# Altium schematic symbol library SamacSys.SchLib: 1311 symbols (part 8 of 14)
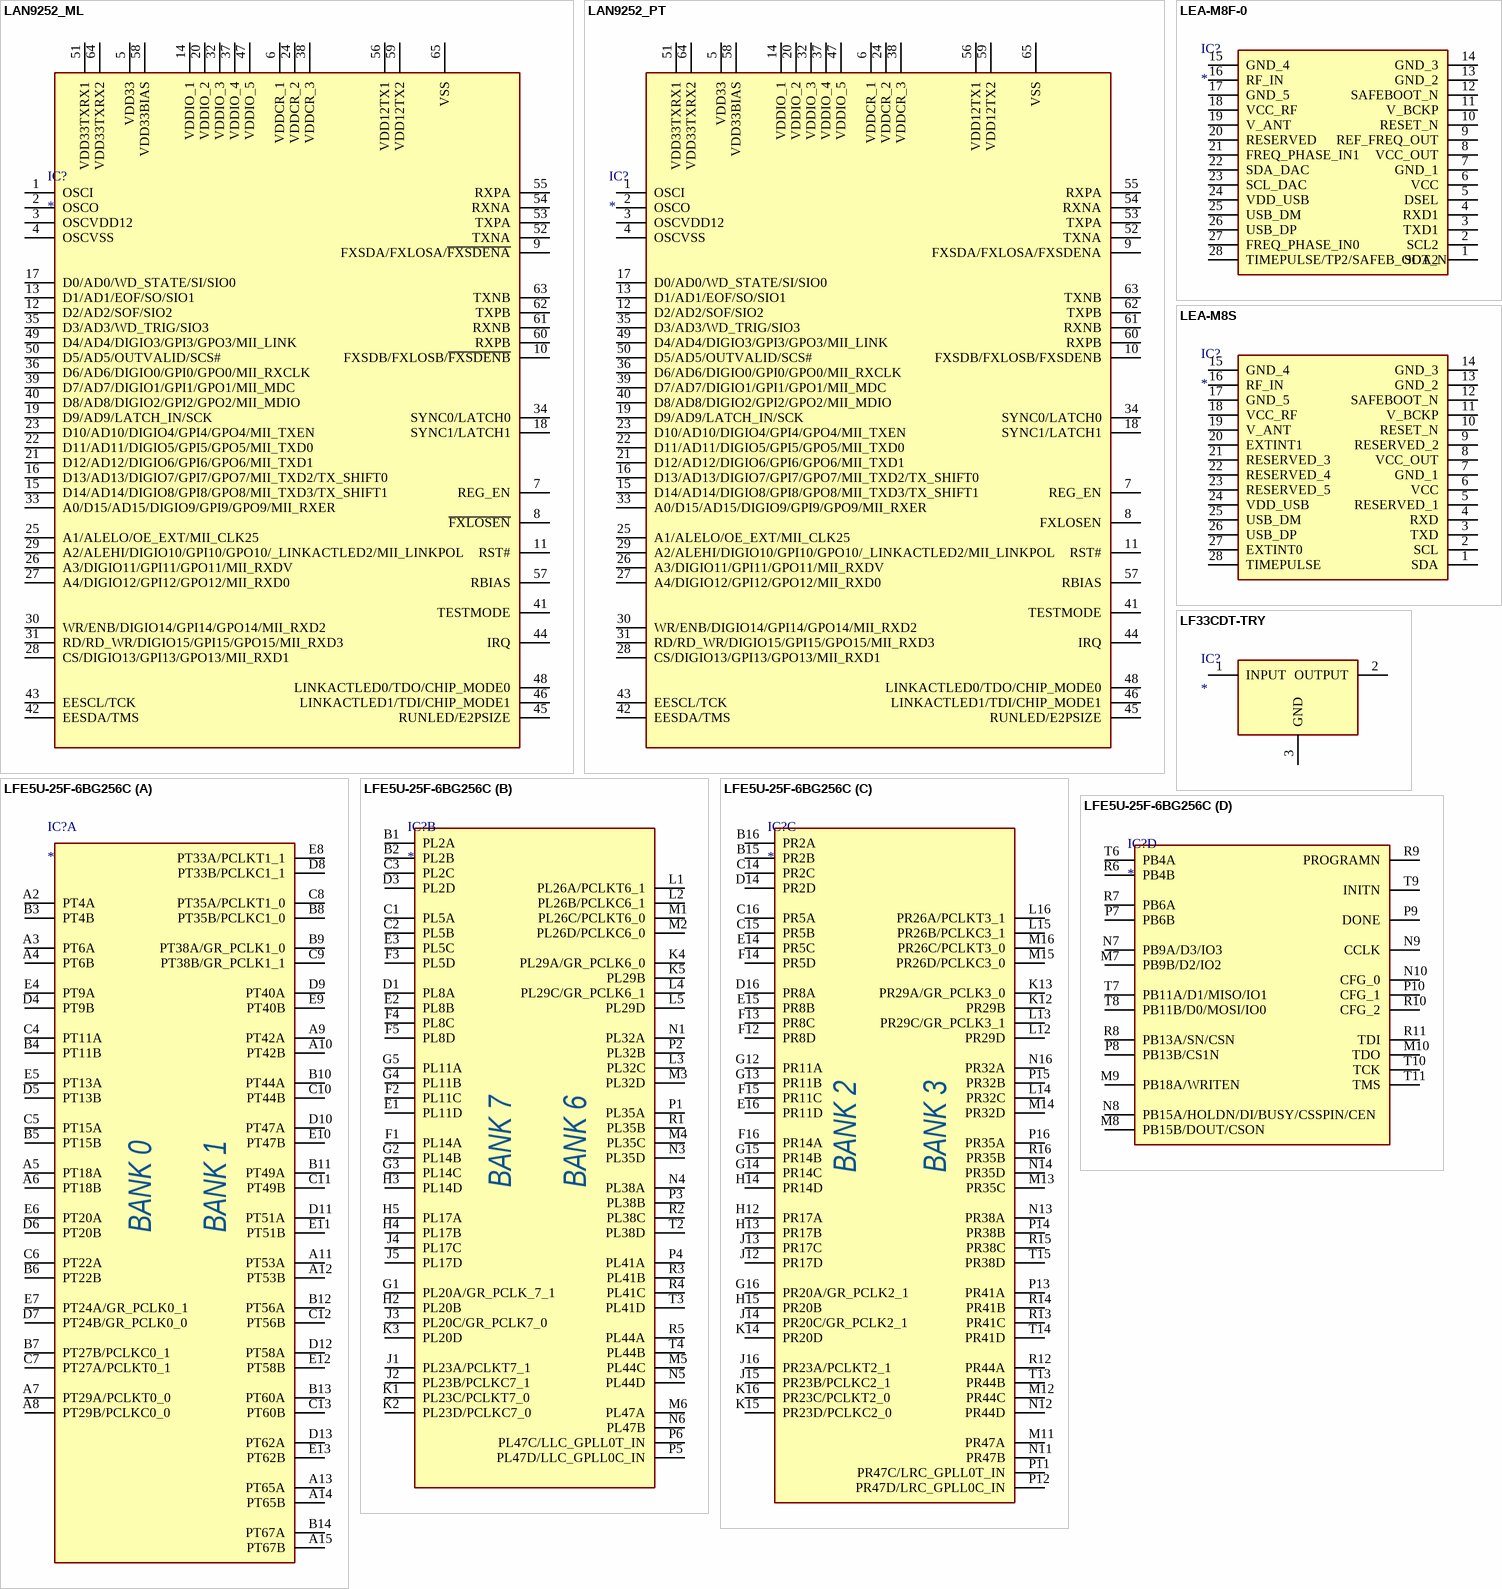
[diagram p57: symbols LAN9252_ML to LFE5U-25F-6BG256C]

## LAN9252_PT
designator IC?
Integrated Circuit; Manufacturer_Name: Microchip; Manufacturer_Part_Number: LAN9252/PT; Datasheet Link: https://componentsearchengine.com/Datasheets/1/LAN9252_PT.pdf; Height: 1.2mm; Mouser Part Number: 579-LAN9252/PT; Mouser Price/Stock: https://www.mouser.co.uk/ProductDetail/Microchip-Technology/LAN9252-PT?qs=%252ByRm1sYhYIkN4y4wMc7rzA%3D%3D; Arrow Part Number: LAN9252/PT; Arrow Price/Stock: https://www.arrow.com/en/products/lan9252pt/microchip-technology?utm_currency=USD&region=nac
footprint QFP50P1200X1200X120-65N
pins: 1 OSCI, 2 OSCO, 3 OSCVDD12, 4 OSCVSS, 5 VDD33, 6 VDDCR_1, 7 REG_EN, 8 FXLOSEN, 9 FXSDA/FXLOSA/FXSDENA, 10 FXSDB/FXLOSB/FXSDENB, 11 RST#, 12 D2/AD2/SOF/SIO2, 13 D1/AD1/EOF/SO/SIO1, 14 VDDIO_1, 15 D14/AD14/DIGIO8/GPI8/GPO8/MII_TXD3/TX_SHIFT1, 16 D13/AD13/DIGIO7/GPI7/GPO7/MII_TXD2/TX_SHIFT0, 17 D0/AD0/WD_STATE/SI/SIO0, 18 SYNC1/LATCH1, 19 D9/AD9/LATCH_IN/SCK, 20 VDDIO_2, 21 D12/AD12/DIGIO6/GPI6/GPO6/MII_TXD1, 22 D11/AD11/DIGIO5/GPI5/GPO5/MII_TXD0, 23 D10/AD10/DIGIO4/GPI4/GPO4/MII_TXEN, 24 VDDCR_2, 25 A1/ALELO/OE_EXT/MII_CLK25, 26 A3/DIGIO11/GPI11/GPO11/MII_RXDV, 27 A4/DIGIO12/GPI12/GPO12/MII_RXD0, 28 CS/DIGIO13/GPI13/GPO13/MII_RXD1, 29 A2/ALEHI/DIGIO10/GPI10/GPO10/_LINKACTLED2/MII_LINKPOL, 30 WR/ENB/DIGIO14/GPI14/GPO14/MII_RXD2, 31 RD/RD_WR/DIGIO15/GPI15/GPO15/MII_RXD3, 32 VDDIO_3, 33 A0/D15/AD15/DIGIO9/GPI9/GPO9/MII_RXER, 34 SYNC0/LATCH0, 35 D3/AD3/WD_TRIG/SIO3, 36 D6/AD6/DIGIO0/GPI0/GPO0/MII_RXCLK, 37 VDDIO_4, 38 VDDCR_3, 39 D7/AD7/DIGIO1/GPI1/GPO1/MII_MDC, 40 D8/AD8/DIGIO2/GPI2/GPO2/MII_MDIO, 41 TESTMODE, 42 EESDA/TMS, 43 EESCL/TCK, 44 IRQ, 45 RUNLED/E2PSIZE, 46 LINKACTLED1/TDI/CHIP_MODE1, 47 VDDIO_5, 48 LINKACTLED0/TDO/CHIP_MODE0, 49 D4/AD4/DIGIO3/GPI3/GPO3/MII_LINK, 50 D5/AD5/OUTVALID/SCS#, 51 VDD33TXRX1, 52 TXNA, 53 TXPA, 54 RXNA, 55 RXPA, 56 VDD12TX1, 57 RBIAS, 58 VDD33BIAS, 59 VDD12TX2, 60 RXPB, 61 RXNB, 62 TXPB, 63 TXNB, 64 VDD33TXRX2, 65 VSS

## LEA-M8F-0
designator IC?
Integrated Circuit; Manufacturer_Name: u-blox; Manufacturer_Part_Number: LEA-M8F-0; Datasheet Link: https://content.u-blox.com/sites/default/files/documents/LEA-M8F_DataSheet_UBX-14001772.pdf; Height: 3.9mm; Mouser Part Number: 377-LEA-M8F-0; Mouser Price/Stock: https://www.mouser.co.uk/ProductDetail/u-blox/LEA-M8F-0?qs=KUoIvG%2F9IlbqimLgpKzp4A%3D%3D
footprint LEAM8F0
pins: 1 SDA2, 2 SCL2, 3 TXD1, 4 RXD1, 5 DSEL, 6 VCC, 7 GND_1, 8 VCC_OUT, 9 REF_FREQ_OUT, 10 RESET_N, 11 V_BCKP, 12 SAFEBOOT_N, 13 GND_2, 14 GND_3, 15 GND_4, 16 RF_IN, 17 GND_5, 18 VCC_RF, 19 V_ANT, 20 RESERVED, 21 FREQ_PHASE_IN1, 22 SDA_DAC, 23 SCL_DAC, 24 VDD_USB, 25 USB_DM, 26 USB_DP, 27 FREQ_PHASE_IN0, 28 TIMEPULSE/TP2/SAFEB_OOT_N

## LEA-M8S
designator IC?
Integrated Circuit; Manufacturer_Name: u-blox; Manufacturer_Part_Number: LEA-M8S; Datasheet Link: https://www.u-blox.com/sites/default/files/LEA-M8S-FW3_DataSheet_%28UBX-16010205%29.pdf; Height: 2.7mm; Mouser Part Number: N/A; Mouser Price/Stock: https://www.mouser.co.uk/ProductDetail/u-blox/LEA-M8S?qs=KUoIvG%2F9IlYlar0PVoRKBw%3D%3D
footprint LEAM8S
pins: 1 SDA, 2 SCL, 3 TXD, 4 RXD, 5 RESERVED_1, 6 VCC, 7 GND_1, 8 VCC_OUT, 9 RESERVED_2, 10 RESET_N, 11 V_BCKP, 12 SAFEBOOT_N, 13 GND_2, 14 GND_3, 15 GND_4, 16 RF_IN, 17 GND_5, 18 VCC_RF, 19 V_ANT, 20 EXTINT1, 21 RESERVED_3, 22 RESERVED_4, 23 RESERVED_5, 24 VDD_USB, 25 USB_DM, 26 USB_DP, 27 EXTINT0, 28 TIMEPULSE

## LF33CDT-TRY
designator IC?
IC LDO 3.3V 500mA DPAK; Manufacturer_Name: STMicroelectronics; Manufacturer_Part_Number: LF33CDT-TRY; Datasheet Link: https://www.st.com/resource/en/datasheet/lfxx.pdf; Height: 2mm; Mouser Part Number: 511-LF33CDT-TRY; Mouser Price/Stock: https://www.mouser.co.uk/ProductDetail/STMicroelectronics/LF33CDT-TRY?qs=fnYUjNMxfVBCqlsIwZoKRw%3D%3D; Arrow Part Number: LF33CDT-TRY; Arrow Price/Stock: https://www.arrow.com/en/products/lf33cdt-try/stmicroelectronics?region=nac
footprint LD1117DT33
pins: 1 INPUT, 2 OUTPUT, 3 GND

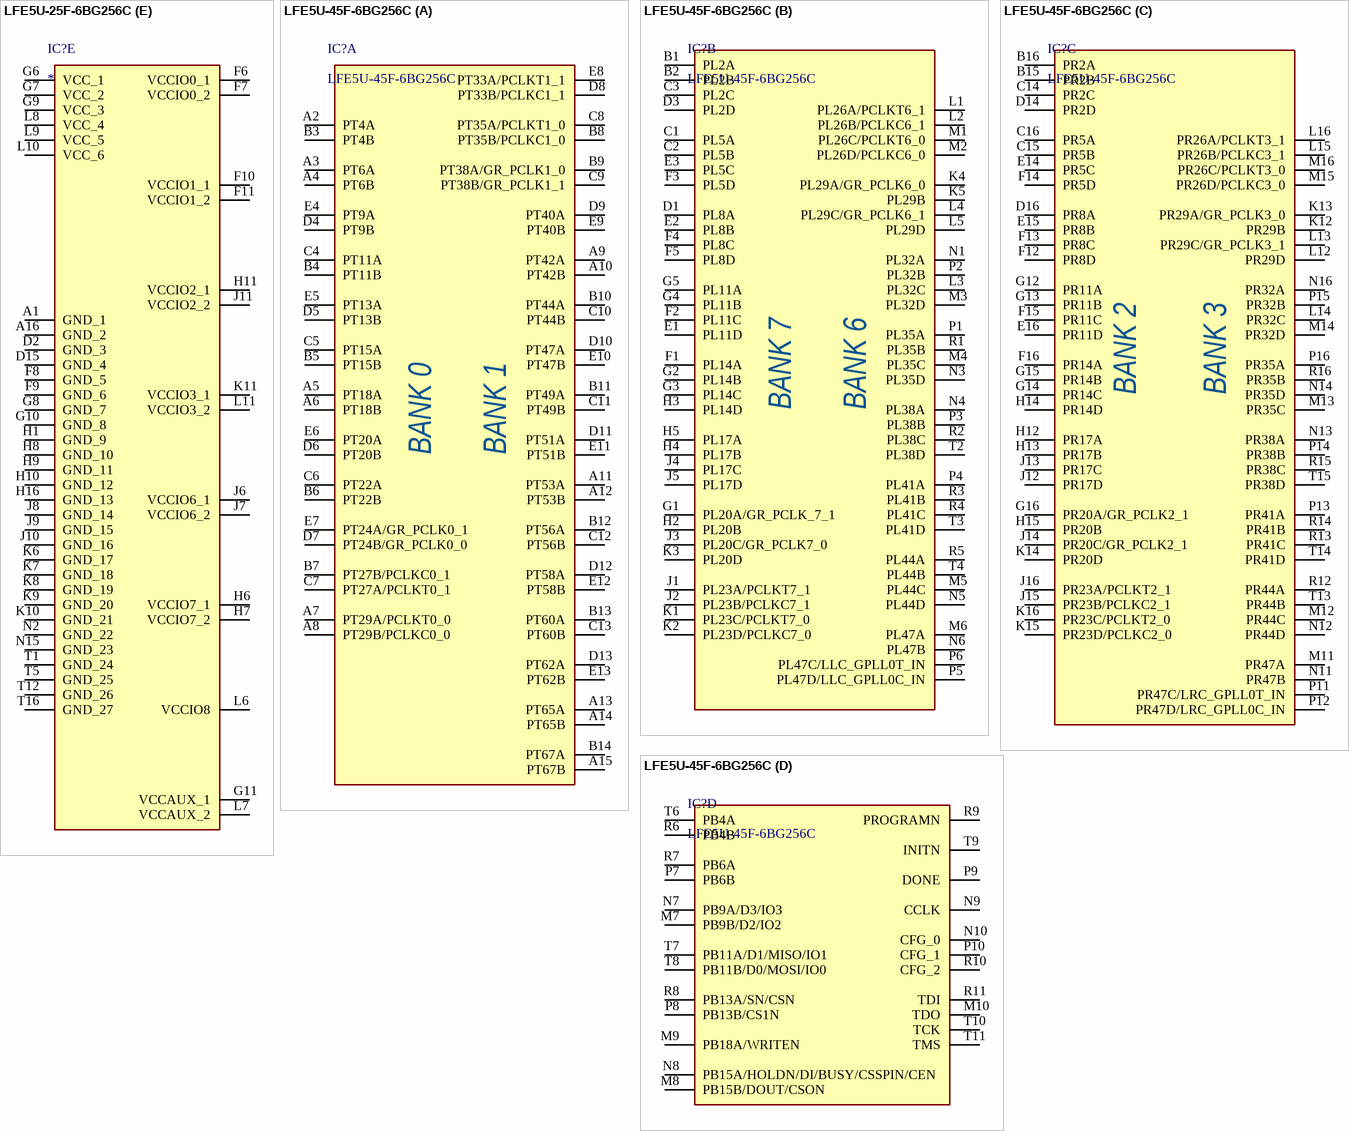
[diagram p26: symbols LFE5U-25F-6BG256C to LFE5U-45F-6BG256C]

## LFE5U-25F-6BG256C
designator IC?
FPGA, 24K LUT, 137kbit RAM; Manufacturer_Name: Lattice Semiconductor; Manufacturer_Part_Number: LFE5U-25F-6BG256C; Datasheet Link: http://www.latticesemi.com/view_document?document_id=50461; Height: 1.7mm; Mouser Part Number: 842-LFE5U25F6BG256C; Mouser Price/Stock: https://www.mouser.co.uk/ProductDetail/Lattice/LFE5U-25F-6BG256C?qs=w%2Fv1CP2dgqrTaI14mPfyBg%3D%3D; Arrow Part Number: LFE5U-25F-6BG256C; Arrow Price/Stock: https://www.arrow.com/en/products/lfe5u-25f-6bg256c/lattice-semiconductor?region=nac
footprint BGA256C80P16X16_1400X1400X170
part A pins: A2 PT4A, A3 PT6A, A4 PT6B, A5 PT18A, A6 PT18B, A7 PT29A/PCLKT0_0, A8 PT29B/PCLKC0_0, A9 PT42A, A10 PT42B, A11 PT53A, A12 PT53B, A13 PT65A, A14 PT65B, A15 PT67B, B3 PT4B, B4 PT11B, B5 PT15B, B6 PT22B, B7 PT27B/PCLKC0_1, B8 PT35B/PCLKC1_0, B9 PT38A/GR_PCLK1_0, B10 PT44A, B11 PT49A, B12 PT56A, B13 PT60A, B14 PT67A, C4 PT11A, C5 PT15A, C6 PT22A, C7 PT27A/PCLKT0_1, C8 PT35A/PCLKT1_0, C9 PT38B/GR_PCLK1_1, C10 PT44B, C11 PT49B, C12 PT56B, C13 PT60B, D4 PT9B, D5 PT13B, D6 PT20B, D7 PT24B/GR_PCLK0_0, D8 PT33B/PCLKC1_1, D9 PT40A, D10 PT47A, D11 PT51A, D12 PT58A, D13 PT62A, E4 PT9A, E5 PT13A, E6 PT20A, E7 PT24A/GR_PCLK0_1, E8 PT33A/PCLKT1_1, E9 PT40B, E10 PT47B, E11 PT51B, E12 PT58B, E13 PT62B
part B pins: B1 PL2A, B2 PL2B, C1 PL5A, C2 PL5B, C3 PL2C, D1 PL8A, D3 PL2D, E1 PL11D, E2 PL8B, E3 PL5C, F1 PL14A, F2 PL11C, F3 PL5D, F4 PL8C, F5 PL8D, G1 PL20A/GR_PCLK_7_1, G2 PL14B, G3 PL14C, G4 PL11B, G5 PL11A, H2 PL20B, H3 PL14D, H4 PL17B, H5 PL17A, J1 PL23A/PCLKT7_1, J2 PL23B/PCLKC7_1, J3 PL20C/GR_PCLK7_0, J4 PL17C, J5 PL17D, K1 PL23C/PCLKT7_0, K2 PL23D/PCLKC7_0, K3 PL20D, K4 PL29A/GR_PCLK6_0, K5 PL29B, L1 PL26A/PCLKT6_1, L2 PL26B/PCLKC6_1, L3 PL32C, L4 PL29C/GR_PCLK6_1, L5 PL29D, M1 PL26C/PCLKT6_0, M2 PL26D/PCLKC6_0, M3 PL32D, M4 PL35C, M5 PL44C, M6 PL47A, N1 PL32A, N3 PL35D, N4 PL38A, N5 PL44D, N6 PL47B, P1 PL35A, P2 PL32B, P3 PL38B, P4 PL41A, P5 PL47D/LLC_GPLL0C_IN, P6 PL47C/LLC_GPLL0T_IN, R1 PL35B, R2 PL38C, R3 PL41B, R4 PL41C, R5 PL44A, T2 PL38D, T3 PL41D, T4 PL44B
part C pins: B15 PR2B, B16 PR2A, C14 PR2C, C15 PR5B, C16 PR5A, D14 PR2D, D16 PR8A, E14 PR5C, E15 PR8B, E16 PR11D, F12 PR8D, F13 PR8C, F14 PR5D, F15 PR11C, F16 PR14A, G12 PR11A, G13 PR11B, G14 PR14C, G15 PR14B, G16 PR20A/GR_PCLK2_1, H12 PR17A, H13 PR17B, H14 PR14D, H15 PR20B, J12 PR17D, J13 PR17C, J14 PR20C/GR_PCLK2_1, J15 PR23B/PCLKC2_1, J16 PR23A/PCLKT2_1, K12 PR29B, K13 PR29A/GR_PCLK3_0, K14 PR20D, K15 PR23D/PCLKC2_0, K16 PR23C/PCLKT2_0, L12 PR29D, L13 PR29C/GR_PCLK3_1, L14 PR32C, L15 PR26B/PCLKC3_1, L16 PR26A/PCLKT3_1, M11 PR47A, M12 PR44C, M13 PR35C, M14 PR32D, M15 PR26D/PCLKC3_0, M16 PR26C/PCLKT3_0, N11 PR47B, N12 PR44D, N13 PR38A, N14 PR35D, N16 PR32A, P11 PR47C/LRC_GPLL0T_IN, P12 PR47D/LRC_GPLL0C_IN, P13 PR41A, P14 PR38B, P15 PR32B, P16 PR35A, R12 PR44A, R13 PR41C, R14 PR41B, R15 PR38C, R16 PR35B, T13 PR44B, T14 PR41D, T15 PR38D
part D pins: M7 PB9B/D2/IO2, M8 PB15B/DOUT/CSON, M9 PB18A/WRITEN, M10 TDO, N7 PB9A/D3/IO3, N8 PB15A/HOLDN/DI/BUSY/CSSPIN/CEN, N9 CCLK, N10 CFG_0, P7 PB6B, P8 PB13B/CS1N, P9 DONE, P10 CFG_1, R6 PB4B, R7 PB6A, R8 PB13A/SN/CSN, R9 PROGRAMN, R10 CFG_2, R11 TDI, T6 PB4A, T7 PB11A/D1/MISO/IO1, T8 PB11B/D0/MOSI/IO0, T9 INITN, T10 TCK, T11 TMS
part E pins: A1 GND_1, A16 GND_2, D2 GND_3, D15 GND_4, F6 VCCIO0_1, F7 VCCIO0_2, F8 GND_5, F9 GND_6, F10 VCCIO1_1, F11 VCCIO1_2, G6 VCC_1, G7 VCC_2, G8 GND_7, G9 VCC_3, G10 GND_8, G11 VCCAUX_1, H1 GND_9, H6 VCCIO7_1, H7 VCCIO7_2, H8 GND_10, H9 GND_11, H10 GND_12, H11 VCCIO2_1, H16 GND_13, J6 VCCIO6_1, J7 VCCIO6_2, J8 GND_14, J9 GND_15, J10 GND_16, J11 VCCIO2_2, K6 GND_17, K7 GND_18, K8 GND_19, K9 GND_20, K10 GND_21, K11 VCCIO3_1, L6 VCCIO8, L7 VCCAUX_2, L8 VCC_4, L9 VCC_5, L10 VCC_6, L11 VCCIO3_2, N2 GND_22, N15 GND_23, T1 GND_24, T5 GND_25, T12 GND_26, T16 GND_27
part A text: BANK 0; BANK 1
part B text: BANK 7; BANK 6
part C text: BANK 2; BANK 3

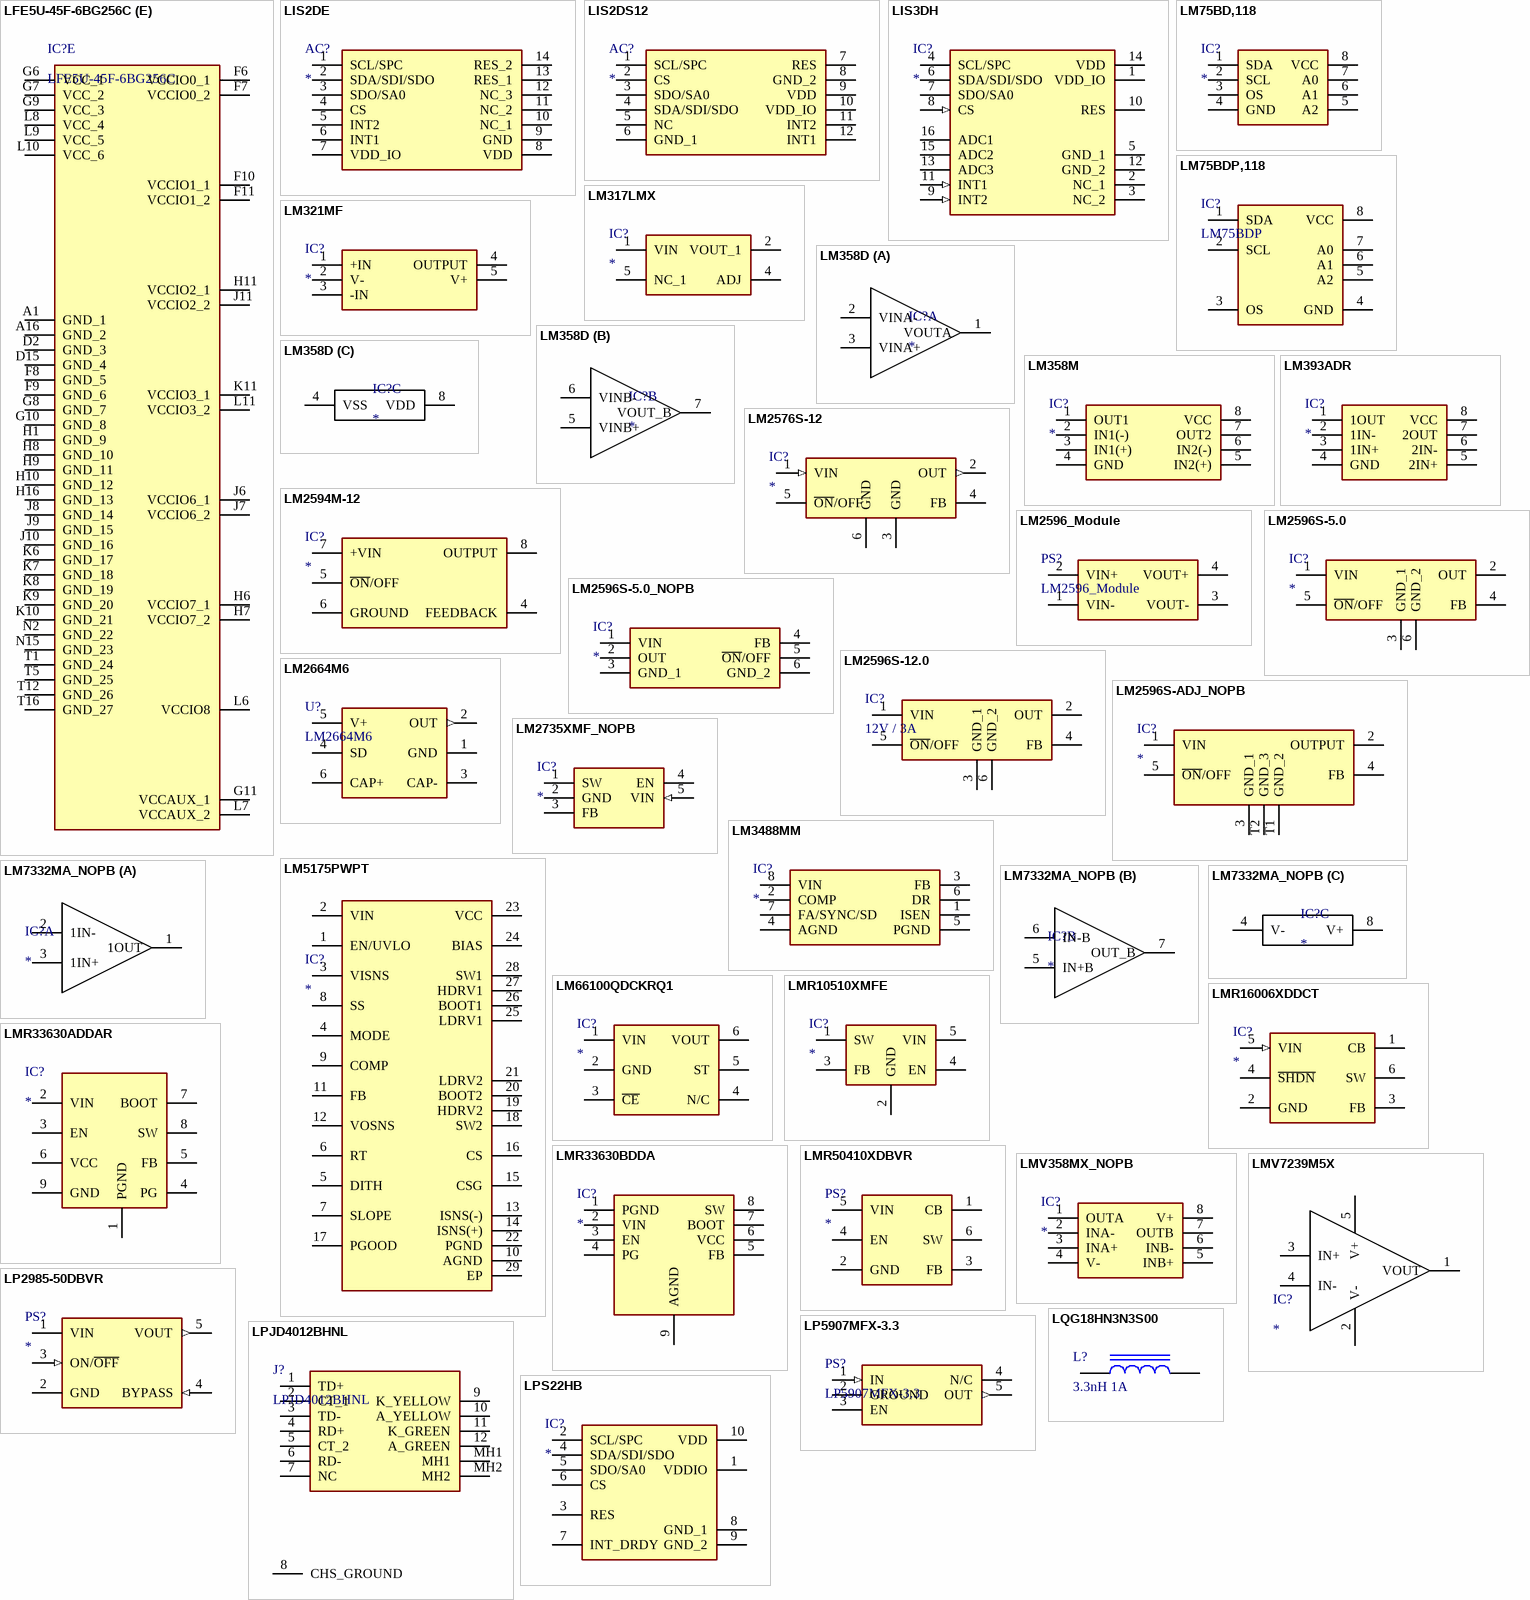
[diagram p27: symbols LFE5U-45F-6BG256C to LQG18HN3N3S00]

## LFE5U-45F-6BG256C
designator IC?
FPGA, 44K LUT, 351kbit RAM; Manufacturer_Name: Lattice Semiconductor; Datasheet Link: http://www.latticesemi.com/view_document?document_id=50461; Height: 1.7mm; Manufacturer_Part_Number: LFE5U-45F-6BG256C; Mouser Part Number: LFE5U-45F-6BG256C; Mouser Price/Stock: https://www.mouser.co.uk/ProductDetail/Lattice/LFE5U-25F-6BG256C?qs=w%2Fv1CP2dgqrTaI14mPfyBg%3D%3D; Arrow Part Number: LFE5U-45F-6BG256C; Arrow Price/Stock: https://www.arrow.com/en/products/lfe5u-25f-6bg256c/lattice-semiconductor?region=nac
footprint BGA256C80P16X16_1400X1400X170
part A pins: A2 PT4A, A3 PT6A, A4 PT6B, A5 PT18A, A6 PT18B, A7 PT29A/PCLKT0_0, A8 PT29B/PCLKC0_0, A9 PT42A, A10 PT42B, A11 PT53A, A12 PT53B, A13 PT65A, A14 PT65B, A15 PT67B, B3 PT4B, B4 PT11B, B5 PT15B, B6 PT22B, B7 PT27B/PCLKC0_1, B8 PT35B/PCLKC1_0, B9 PT38A/GR_PCLK1_0, B10 PT44A, B11 PT49A, B12 PT56A, B13 PT60A, B14 PT67A, C4 PT11A, C5 PT15A, C6 PT22A, C7 PT27A/PCLKT0_1, C8 PT35A/PCLKT1_0, C9 PT38B/GR_PCLK1_1, C10 PT44B, C11 PT49B, C12 PT56B, C13 PT60B, D4 PT9B, D5 PT13B, D6 PT20B, D7 PT24B/GR_PCLK0_0, D8 PT33B/PCLKC1_1, D9 PT40A, D10 PT47A, D11 PT51A, D12 PT58A, D13 PT62A, E4 PT9A, E5 PT13A, E6 PT20A, E7 PT24A/GR_PCLK0_1, E8 PT33A/PCLKT1_1, E9 PT40B, E10 PT47B, E11 PT51B, E12 PT58B, E13 PT62B
part B pins: B1 PL2A, B2 PL2B, C1 PL5A, C2 PL5B, C3 PL2C, D1 PL8A, D3 PL2D, E1 PL11D, E2 PL8B, E3 PL5C, F1 PL14A, F2 PL11C, F3 PL5D, F4 PL8C, F5 PL8D, G1 PL20A/GR_PCLK_7_1, G2 PL14B, G3 PL14C, G4 PL11B, G5 PL11A, H2 PL20B, H3 PL14D, H4 PL17B, H5 PL17A, J1 PL23A/PCLKT7_1, J2 PL23B/PCLKC7_1, J3 PL20C/GR_PCLK7_0, J4 PL17C, J5 PL17D, K1 PL23C/PCLKT7_0, K2 PL23D/PCLKC7_0, K3 PL20D, K4 PL29A/GR_PCLK6_0, K5 PL29B, L1 PL26A/PCLKT6_1, L2 PL26B/PCLKC6_1, L3 PL32C, L4 PL29C/GR_PCLK6_1, L5 PL29D, M1 PL26C/PCLKT6_0, M2 PL26D/PCLKC6_0, M3 PL32D, M4 PL35C, M5 PL44C, M6 PL47A, N1 PL32A, N3 PL35D, N4 PL38A, N5 PL44D, N6 PL47B, P1 PL35A, P2 PL32B, P3 PL38B, P4 PL41A, P5 PL47D/LLC_GPLL0C_IN, P6 PL47C/LLC_GPLL0T_IN, R1 PL35B, R2 PL38C, R3 PL41B, R4 PL41C, R5 PL44A, T2 PL38D, T3 PL41D, T4 PL44B
part C pins: B15 PR2B, B16 PR2A, C14 PR2C, C15 PR5B, C16 PR5A, D14 PR2D, D16 PR8A, E14 PR5C, E15 PR8B, E16 PR11D, F12 PR8D, F13 PR8C, F14 PR5D, F15 PR11C, F16 PR14A, G12 PR11A, G13 PR11B, G14 PR14C, G15 PR14B, G16 PR20A/GR_PCLK2_1, H12 PR17A, H13 PR17B, H14 PR14D, H15 PR20B, J12 PR17D, J13 PR17C, J14 PR20C/GR_PCLK2_1, J15 PR23B/PCLKC2_1, J16 PR23A/PCLKT2_1, K12 PR29B, K13 PR29A/GR_PCLK3_0, K14 PR20D, K15 PR23D/PCLKC2_0, K16 PR23C/PCLKT2_0, L12 PR29D, L13 PR29C/GR_PCLK3_1, L14 PR32C, L15 PR26B/PCLKC3_1, L16 PR26A/PCLKT3_1, M11 PR47A, M12 PR44C, M13 PR35C, M14 PR32D, M15 PR26D/PCLKC3_0, M16 PR26C/PCLKT3_0, N11 PR47B, N12 PR44D, N13 PR38A, N14 PR35D, N16 PR32A, P11 PR47C/LRC_GPLL0T_IN, P12 PR47D/LRC_GPLL0C_IN, P13 PR41A, P14 PR38B, P15 PR32B, P16 PR35A, R12 PR44A, R13 PR41C, R14 PR41B, R15 PR38C, R16 PR35B, T13 PR44B, T14 PR41D, T15 PR38D
part D pins: M7 PB9B/D2/IO2, M8 PB15B/DOUT/CSON, M9 PB18A/WRITEN, M10 TDO, N7 PB9A/D3/IO3, N8 PB15A/HOLDN/DI/BUSY/CSSPIN/CEN, N9 CCLK, N10 CFG_0, P7 PB6B, P8 PB13B/CS1N, P9 DONE, P10 CFG_1, R6 PB4B, R7 PB6A, R8 PB13A/SN/CSN, R9 PROGRAMN, R10 CFG_2, R11 TDI, T6 PB4A, T7 PB11A/D1/MISO/IO1, T8 PB11B/D0/MOSI/IO0, T9 INITN, T10 TCK, T11 TMS
part E pins: A1 GND_1, A16 GND_2, D2 GND_3, D15 GND_4, F6 VCCIO0_1, F7 VCCIO0_2, F8 GND_5, F9 GND_6, F10 VCCIO1_1, F11 VCCIO1_2, G6 VCC_1, G7 VCC_2, G8 GND_7, G9 VCC_3, G10 GND_8, G11 VCCAUX_1, H1 GND_9, H6 VCCIO7_1, H7 VCCIO7_2, H8 GND_10, H9 GND_11, H10 GND_12, H11 VCCIO2_1, H16 GND_13, J6 VCCIO6_1, J7 VCCIO6_2, J8 GND_14, J9 GND_15, J10 GND_16, J11 VCCIO2_2, K6 GND_17, K7 GND_18, K8 GND_19, K9 GND_20, K10 GND_21, K11 VCCIO3_1, L6 VCCIO8, L7 VCCAUX_2, L8 VCC_4, L9 VCC_5, L10 VCC_6, L11 VCCIO3_2, N2 GND_22, N15 GND_23, T1 GND_24, T5 GND_25, T12 GND_26, T16 GND_27
part A text: BANK 0; BANK 1
part B text: BANK 7; BANK 6
part C text: BANK 2; BANK 3

## LIS2DE
designator AC?
Accelerometer; Manufacturer_Name: STMicroelectronics; Manufacturer_Part_Number: LIS2DE; Datasheet Link: https://www.st.com/resource/en/datasheet/lis2de.pdf; Height: 2mm
footprint LIS2DE
pins: 1 SCL/SPC, 2 SDA/SDI/SDO, 3 SDO/SA0, 4 CS, 5 INT2, 6 INT1, 7 VDD_IO, 8 VDD, 9 GND, 10 NC_1, 11 NC_2, 12 NC_3, 13 RES_1, 14 RES_2

## LIS2DS12
designator AC?
Accelerometer; Manufacturer_Name: STMicroelectronics; Manufacturer_Part_Number: LIS2DS12; Datasheet Link: http://www.st.com/content/ccc/resource/technical/document/datasheet/ce/32/55/ac/e1/87/46/84/DM00177048.pdf/files/DM00177048.pdf/jcr:content/translations/en.DM00177048.pdf
footprint LGA-12
pins: 1 SCL/SPC, 2 CS, 3 SDO/SA0, 4 SDA/SDI/SDO, 5 NC, 6 GND_1, 7 RES, 8 GND_2, 9 VDD, 10 VDD_IO, 11 INT2, 12 INT1

## LIS3DH
designator IC?
Integrated Circuit; Manufacturer_Name: STMicroelectronics; Manufacturer_Part_Number: LIS3DH; Datasheet Link: http://www.st.com/st-web-ui/static/active/en/resource/technical/document/datasheet/CD00274221.pdf; Height: 1mm; Mouser Part Number: 511-LIS3DH; Mouser Price/Stock: https://www.mouser.co.uk/ProductDetail/STMicroelectronics/LIS3DH?qs=6la6oa3D8xzPM1xd7Ufm4A%3D%3D; Arrow Part Number: LIS3DH; Arrow Price/Stock: https://www.arrow.com/en/products/lis3dh/stmicroelectronics
footprint H3LIS100DLTR
pins: 1 VDD_IO (power), 2 NC_1, 3 NC_2, 4 SCL/SPC, 5 GND_1 (power), 6 SDA/SDI/SDO, 7 SDO/SA0, 8 CS (in), 9 INT2 (in), 10 RES, 11 INT1 (in), 12 GND_2 (power), 13 ADC3, 14 VDD (power), 15 ADC2, 16 ADC1

## LM75BD,118
designator IC?
Integrated Circuit; Manufacturer_Name: NXP; Manufacturer_Part_Number: LM75BD,118; Datasheet Link: http://www.nxp.com/docs/en/data-sheet/LM75B.pdf; Height: 1.75mm; Mouser Part Number: 771-LM75BD118; Mouser Price/Stock: https://www.mouser.co.uk/ProductDetail/NXP-Semiconductors/LM75BD118?qs=tKEQ0l%252B78Dle%2FKEoz9Gpmw%3D%3D; Arrow Part Number: LM75BD,118; Arrow Price/Stock: https://www.arrow.com/en/products/lm75bd118/nxp-semiconductors?region=nac
footprint SOIC127P600X175-8N
pins: 1 SDA, 2 SCL, 3 OS, 4 GND, 5 A2, 6 A1, 7 A0, 8 VCC

## LM75BDP,118
designator IC?, comment LM75BDP
Integrated Circuit; Manufacturer_Name: NXP; Manufacturer_Part_Number: LM75BDP,118; Datasheet Link: http://www.nxp.com/docs/en/data-sheet/LM75B.pdf; Height: 1.1mm; Mouser Part Number: 771-LM75BDP; Mouser Price/Stock: https://www.mouser.co.uk/ProductDetail/NXP-Semiconductors/LM75BDP118?qs=NVaOCIL7CYS15EE%252BCogVfA%3D%3D; Arrow Part Number: LM75BDP,118; Arrow Price/Stock: https://www.arrow.com/en/products/lm75bdp118/nxp-semiconductors?region=nac
footprint SOP65P490X110-8N
pins: 1 SDA, 2 SCL, 3 OS, 4 GND, 5 A2, 6 A1, 7 A0, 8 VCC

## LM317LMX
designator IC?
Integrated Circuit; Manufacturer_Name: onsemi; Manufacturer_Part_Number: LM317LMX; Datasheet Link: https://www.ti.com/lit/ds/symlink/lm317l-n.pdf?HQS=dis-dk-null-digikeymode-dsf-pf-null-wwe&ts=1613971369395; Height: 1.75mm; Mouser Part Number: 512-LM317LMX; Mouser Price/Stock: https://www.mouser.co.uk/ProductDetail/onsemi-Fairchild/LM317LMX?qs=DgZPx0AY41lcVeKBs7y%2FHw%3D%3D; Arrow Part Number: LM317LMX; Arrow Price/Stock: https://www.arrow.com/en/products/lm317lmx/on-semiconductor
footprint SOIC127P600X175-8N; pin to pad 2>2+3+6+7 5>5+8
pins: 1 VIN, 2 VOUT_1, 4 ADJ, 5 NC_1

## LM321MF
designator IC?
Integrated Circuit; Manufacturer_Name: Texas Instruments; Manufacturer_Part_Number: LM321MF/NOPB; Datasheet Link: https://datasheet.datasheetarchive.com/originals/distributors/Datasheets-SFU2/DSASFU100036193.pdf; Height: 1.45mm; Mouser Part Number: 926-LM321MF/NOPB; Mouser Price/Stock: https://www.mouser.co.uk/ProductDetail/Texas-Instruments/LM321MF-NOPB?qs=X1J7HmVL2ZEjaSKPrGsivQ%3D%3D; Arrow Part Number: LM321MF/NOPB; Arrow Price/Stock: https://www.arrow.com/en/products/lm321mfnopb/texas-instruments?region=nac
footprint SOT95P280X145-5N
pins: 1 +IN, 2 V-, 3 -IN, 4 OUTPUT, 5 V+

## LM358D
designator IC?
Integrated Circuit; Manufacturer_Name: Texas Instruments; Manufacturer_Part_Number: LM358D; Datasheet Link: http://www.ti.com/lit/ds/symlink/lm358.pdf; Height: 1.75mm; Mouser Part Number: 595-LM358D; Mouser Price/Stock: https://www.mouser.co.uk/ProductDetail/Texas-Instruments/LM358D?qs=X1HXWTtiZ0RJBM%2FvBfVo8g%3D%3D; Arrow Part Number: LM358D; Arrow Price/Stock: https://www.arrow.com/en/products/lm358d/texas-instruments?region=nac
footprint SOIC127P600X175-8N
part A pins: 1 VOUTA, 2 VINA-, 3 VINA+
part B pins: 5 VINB+, 6 VINB-, 7 VOUT_B
part C pins: 4 VSS, 8 VDD

## LM358M
designator IC?
Integrated Circuit; Manufacturer_Name: onsemi; Manufacturer_Part_Number: LM358M; Datasheet Link: https://www.onsemi.com/pub/Collateral/LM358A-D.pdf; Height: 1.75mm; Mouser Part Number: 512-LM358M; Mouser Price/Stock: https://www.mouser.com/Search/Refine.aspx?Keyword=512-LM358M; Arrow Part Number: LM358M; Arrow Price/Stock: https://www.arrow.com/en/products/lm358m/on-semiconductor
footprint SOIC127P600X175-8N
pins: 1 OUT1, 2 IN1(-), 3 IN1(+), 4 GND, 5 IN2(+), 6 IN2(-), 7 OUT2, 8 VCC

## LM393ADR
designator IC?
Integrated Circuit; Manufacturer_Name: Texas Instruments; Manufacturer_Part_Number: LM393ADR; Datasheet Link: http://www.ti.com/lit/ds/symlink/lm393a.pdf; Height: 1.75mm; Mouser Part Number: 595-LM393ADR; Mouser Price/Stock: https://www.mouser.co.uk/ProductDetail/Texas-Instruments/LM393ADR?qs=VolsR0DjNPq76ZV6Dhd8nQ%3D%3D; Arrow Part Number: LM393ADR; Arrow Price/Stock: https://www.arrow.com/en/products/lm393adr/texas-instruments?utm_currency=USD&region=nac
footprint SOIC127P600X175-8N
pins: 1 1OUT, 2 1IN-, 3 1IN+, 4 GND, 5 2IN+, 6 2IN-, 7 2OUT, 8 VCC

## LM2576S-12
designator IC?
Integrated Circuit; Manufacturer_Name: Texas Instruments; Manufacturer_Part_Number: LM2576S-12/NOPB; Datasheet Link: https://datasheet.datasheetarchive.com/originals/distributors/Datasheets-SFU2/DSASFU100036591.pdf; Height: 4.65mm; Mouser Part Number: 926-LM2576S-12/NOPB; Mouser Price/Stock: https://www.mouser.co.uk/ProductDetail/Texas-Instruments/LM2576S-12-NOPB?qs=X1J7HmVL2ZFNh71Bqi5%2F%2FQ%3D%3D; Arrow Part Number: LM2576S-12/NOPB; Arrow Price/Stock: https://www.arrow.com/en/products/lm2576s-12nopb/texas-instruments?region=nac
footprint TO170P1435X465-6N
pins: 1 VIN (in), 2 OUT (out), 3 GND, 4 FB, 5 ~{ON}/OFF, 6 GND (power)

## LM2594M-12
designator IC?
Integrated Circuit; Manufacturer_Name: Texas Instruments; Manufacturer_Part_Number: LM2594M-12/NOPB; Datasheet Link: https://datasheet.datasheetarchive.com/originals/distributors/Datasheets-SFU2/DSASFU100036599.pdf; Height: 1.75mm; Mouser Part Number: 926-LM2594M-12/NOPB; Mouser Price/Stock: https://www.mouser.co.uk/ProductDetail/Texas-Instruments/LM2594M-12-NOPB?qs=X1J7HmVL2ZHdSH2D3IP2Eg%3D%3D; Arrow Part Number: LM2594M-12/NOPB; Arrow Price/Stock: https://www.arrow.com/en/products/lm2594m-12nopb/texas-instruments?region=nac
footprint SOIC127P600X175-8N
pins: 4 FEEDBACK, 5 ~{ON}/OFF, 6 GROUND, 7 +VIN, 8 OUTPUT

## LM2596_Module
designator PS?
Module, DCDC 3-40V to 1.5-35V, 3A
footprint LM2596 (DC-DC Module, 3A)
pins: 1 VIN-, 2 VIN+, 3 VOUT-, 4 VOUT+

## LM2596S-5.0
designator IC?
Integrated Circuit; Manufacturer_Name: Texas Instruments; Manufacturer_Part_Number: LM2596S-5.0; Datasheet Link: https://www.ti.com/lit/gpn/LM2596; Mouser Part Number: 926-LM2596S-50; Mouser Price/Stock: https://www.mouser.co.uk/ProductDetail/Texas-Instruments/LM2596S-5.0?qs=X1J7HmVL2ZGcOr96VNr%252B%2Fw%3D%3D; Arrow Part Number: LM2596S-5.0; Arrow Price/Stock: https://www.arrow.com/en/products/lm2596s-5.0/texas-instruments?region=nac
footprint TO263-5L
pins: 1 VIN, 2 OUT, 3 GND_1, 4 FB, 5 ~{ON}/OFF, 6 GND_2

## LM2596S-5.0_NOPB
designator IC?
Integrated Circuit; Manufacturer_Name: Texas Instruments; Manufacturer_Part_Number: LM2596S-5.0/NOPB; Datasheet Link: https://www.ti.com/lit/gpn/LM2596; Mouser Part Number: 926-LM2596S-5.0/NOPB; Mouser Price/Stock: https://www.mouser.co.uk/ProductDetail/Texas-Instruments/LM2596S-5.0-NOPB?qs=X1J7HmVL2ZHVjCOmW%252BYINA%3D%3D; Arrow Part Number: LM2596S-5.0/NOPB; Arrow Price/Stock: https://www.arrow.com/en/products/lm2596s-5.0nopb/texas-instruments?region=nac
footprint TO263-5L
pins: 1 VIN, 2 OUT, 3 GND_1, 4 FB, 5 ~{ON}/OFF, 6 GND_2

## LM2596S-12.0
designator IC?, comment 12V / 3A
Integrated Circuit; Manufacturer_Name: Texas Instruments; Manufacturer_Part_Number: LM2596S-5.0; Datasheet Link: https://www.ti.com/lit/gpn/LM2596; Mouser Part Number: 926-LM2596S-50; Mouser Price/Stock: https://www.mouser.co.uk/ProductDetail/Texas-Instruments/LM2596S-5.0?qs=X1J7HmVL2ZGcOr96VNr%252B%2Fw%3D%3D; Arrow Part Number: LM2596S-5.0; Arrow Price/Stock: https://www.arrow.com/en/products/lm2596s-5.0/texas-instruments?region=nac
footprint TO263-5L
pins: 1 VIN, 2 OUT, 3 GND_1, 4 FB, 5 ~{ON}/OFF, 6 GND_2

## LM2596S-ADJ_NOPB
designator IC?
Integrated Circuit; Manufacturer_Name: Texas Instruments; Manufacturer_Part_Number: LM2596S-ADJ/NOPB; Datasheet Link: https://www.ti.com/lit/ds/symlink/lm2596.pdf?HQS=ti-null-null-sf-df-pf-sep-wwe&ts=1592978195629; Height: 4.57mm; Mouser Part Number: 926-LM2596S-ADJ/NOPB; Mouser Price/Stock: https://www.mouser.co.uk/ProductDetail/Texas-Instruments/LM2596S-ADJ-NOPB?qs=X1J7HmVL2ZHoMN0DLDcNog%3D%3D; Arrow Part Number: LM2596S-ADJ/NOPB; Arrow Price/Stock: https://www.arrow.com/en/products/lm2596s-adjnopb/texas-instruments?region=nac
footprint TO263-5L
pins: 1 VIN, 2 OUTPUT, 3 GND_1, 4 FB, 5 ~{ON}/OFF, T1 GND_2, T2 GND_3

## LM2664M6
designator U?
Integrated Circuit; Manufacturer_Name: Texas Instruments; Datasheet Link: http://www.ti.com/lit/ds/symlink/lm2664.pdf; Height: 1.45mm; Manufacturer_Part_Number: LM2664M6; Mouser Part Number: 926-LM2664M6; Mouser Price/Stock: https://www.mouser.co.uk/ProductDetail/Texas-Instruments/LM2664M6?qs=X1J7HmVL2ZFneF3zQ9mdUQ%3D%3D; Arrow Part Number: LM2664M6; Arrow Price/Stock: https://www.arrow.com/en/products/lm2664m6/texas-instruments?region=nac
footprint SOT95P280X145-6N
pins: 1 GND (power), 2 OUT (out), 3 CAP-, 4 SD, 5 V+, 6 CAP+

## LM2735XMF_NOPB
designator IC?
Integrated Circuit; Manufacturer_Name: Texas Instruments; Manufacturer_Part_Number: LM2735XMF/NOPB; Datasheet Link: http://www.ti.com/lit/ds/symlink/lm2735.pdf; Height: 1.45mm; Mouser Part Number: 926-LM2735XMF/NOPB; Mouser Price/Stock: https://www.mouser.co.uk/ProductDetail/Texas-Instruments/LM2735XMF-NOPB?qs=X1J7HmVL2ZGWlm%2F0hOdpKw%3D%3D; Arrow Part Number: LM2735XMF/NOPB; Arrow Price/Stock: https://www.arrow.com/en/products/lm2735xmfnopb/texas-instruments?region=nac
footprint SOT95P280X145-5N
pins: 1 SW, 2 GND (power), 3 FB, 4 EN, 5 VIN (in)

## LM3488MM
designator IC?
Integrated Circuit; Manufacturer_Name: Texas Instruments; Manufacturer_Part_Number: LM3488MM; Datasheet Link: http://www.ti.com/lit/ds/symlink/lm3488.pdf; Height: 1.1mm; Mouser Part Number: 926-LM3488MM; Mouser Price/Stock: https://www.mouser.co.uk/ProductDetail/Texas-Instruments/LM3488MM?qs=X1J7HmVL2ZF99wiIrTysxw%3D%3D; Arrow Part Number: LM3488MM; Arrow Price/Stock: https://www.arrow.com/en/products/lm3488mm/texas-instruments?region=nac
footprint SOP65P490X110-8N
pins: 1 ISEN, 2 COMP, 3 FB, 4 AGND, 5 PGND, 6 DR, 7 FA/SYNC/SD, 8 VIN

## LM5175PWPT
designator IC?
Integrated Circuit; Manufacturer_Name: Texas Instruments; Manufacturer_Part_Number: LM5175PWPT; Datasheet Link: http://www.ti.com/lit/gpn/lm5175; Height: 1.2mm; Mouser Part Number: 595-LM5175PWPT; Mouser Price/Stock: https://www.mouser.co.uk/ProductDetail/Texas-Instruments/LM5175PWPT?qs=mveuKKgDN2gTJmTmD1zLAw%3D%3D; Arrow Part Number: LM5175PWPT; Arrow Price/Stock: https://www.arrow.com/en/products/lm5175pwpt/texas-instruments?utm_currency=USD&region=nac
footprint SOP65P640X120-29N
pins: 1 EN/UVLO, 2 VIN, 3 VISNS, 4 MODE, 5 DITH, 6 RT, 7 SLOPE, 8 SS, 9 COMP, 10 AGND, 11 FB, 12 VOSNS, 13 ISNS(-), 14 ISNS(+), 15 CSG, 16 CS, 17 PGOOD, 18 SW2, 19 HDRV2, 20 BOOT2, 21 LDRV2, 22 PGND, 23 VCC, 24 BIAS, 25 LDRV1, 26 BOOT1, 27 HDRV1, 28 SW1, 29 EP

## LM7332MA_NOPB
designator IC?
IC OPAMP GP 2 CIRCUIT 8SOIC; Manufacturer_Name: Texas Instruments; Manufacturer_Part_Number: LM7332MA/NOPB; Datasheet Link: http://www.ti.com/lit/gpn/lm7332; Height: 1.75mm; Mouser Part Number: 926-LM7332MA/NOPB; Mouser Price/Stock: https://www.mouser.co.uk/ProductDetail/Texas-Instruments/LM7332MA-NOPB?qs=QbsRYf82W3HTYG13NX3OCw%3D%3D; Arrow Part Number: LM7332MA/NOPB; Arrow Price/Stock: https://www.arrow.com/en/products/lm7332manopb/texas-instruments?region=nac
footprint SOIC127P600X175-8N
part A pins: 1 1OUT, 2 1IN-, 3 1IN+
part B pins: 5 IN+B, 6 IN-B, 7 OUT_B
part C pins: 4 V-, 8 V+

## LM66100QDCKRQ1
designator IC?
Integrated Circuit; Manufacturer_Name: Texas Instruments; Manufacturer_Part_Number: LM66100QDCKRQ1; Datasheet Link: https://www.ti.com/lit/ds/symlink/lm66100-q1.pdf?ts=1647247642374&ref_url=www.ti.com; Height: 1.1mm; Mouser Part Number: 595-LM66100QDCKRQ1; Mouser Price/Stock: https://www.mouser.co.uk/ProductDetail/Texas-Instruments/LM66100QDCKRQ1?qs=MyNHzdoqoQIvjdvtKQd0jA%3D%3D; Arrow Part Number: LM66100QDCKRQ1; Arrow Price/Stock: https://www.arrow.com/en/products/lm66100qdckrq1/texas-instruments?utm_currency=USD&region=nac
footprint SOT65P210X110-6N
pins: 1 VIN, 2 GND, 3 ~{CE}, 4 N/C, 5 ST, 6 VOUT

## LMR10510XMFE
designator IC?
Integrated Circuit; Manufacturer_Name: Texas Instruments; Manufacturer_Part_Number: LMR10510XMFE/NOPB; Datasheet Link: http://www.ti.com/lit/gpn/lmr10510; Height: 1.45mm; Mouser Part Number: 926-LMR10510XMFENOPB; Mouser Price/Stock: https://www.mouser.co.uk/ProductDetail/Texas-Instruments/LMR10510XMFE-NOPB?qs=cN01o9PeIQt6Gu2gtl1ODA%3D%3D; Arrow Part Number: LMR10510XMFE/NOPB; Arrow Price/Stock: https://www.arrow.com/en/products/lmr10510xmfenopb/texas-instruments?region=nac
footprint SOT95P280X145-5N
pins: 1 SW, 2 GND, 3 FB, 4 EN, 5 VIN

## LMR16006XDDCT
designator IC?
Integrated Circuit; Manufacturer_Name: Texas Instruments; Manufacturer_Part_Number: LMR16006XDDCT; Datasheet Link: http://www.ti.com/lit/ds/symlink/lmr16006.pdf; Height: 1.1mm; Mouser Part Number: 595-LMR16006XDDCT; Mouser Price/Stock: https://www.mouser.co.uk/ProductDetail/Texas-Instruments/LMR16006XDDCT?qs=1CfNGUMoiQ9XpVkX4RTJzg%3D%3D; Arrow Part Number: LMR16006XDDCT; Arrow Price/Stock: https://www.arrow.com/en/products/lmr16006xddct/texas-instruments?region=nac
footprint SOT95P280X110-6N
pins: 1 CB, 2 GND (power), 3 FB, 4 ~{SHDN}, 5 VIN (in), 6 SW

## LMR33630ADDAR
designator IC?
Integrated Circuit; Manufacturer_Name: Texas Instruments; Manufacturer_Part_Number: LMR33630ADDAR; Datasheet Link: http://www.ti.com/lit/gpn/lmr33630; Height: 1.7mm; Mouser Part Number: 595-LMR33630ADDAR; Mouser Price/Stock: https://www.mouser.co.uk/ProductDetail/Texas-Instruments/LMR33630ADDAR?qs=r5DSvlrkXmJQkBTqgVdiDA%3D%3D; Arrow Part Number: LMR33630ADDAR; Arrow Price/Stock: https://www.arrow.com/en/products/lmr33630addar/texas-instruments?region=nac
footprint SOIC127P600X170-9N
pins: 1 PGND, 2 VIN, 3 EN, 4 PG, 5 FB, 6 VCC, 7 BOOT, 8 SW, 9 GND

## LMR33630BDDA
designator IC?
Integrated Circuit; Manufacturer_Name: Texas Instruments; Manufacturer_Part_Number: LMR33630BDDA; Datasheet Link: http://www.ti.com/lit/gpn/LMR33630; Height: 1.7mm; Mouser Part Number: 595-LMR33630BDDA; Mouser Price/Stock: https://www.mouser.co.uk/ProductDetail/Texas-Instruments/LMR33630BDDA?qs=r5DSvlrkXmJSaC%2FkFkJm9Q%3D%3D; Arrow Part Number: LMR33630BDDA; Arrow Price/Stock: https://www.arrow.com/en/products/lmr33630bdda/texas-instruments
footprint SOIC127P600X170-9N
pins: 1 PGND, 2 VIN, 3 EN, 4 PG, 5 FB, 6 VCC, 7 BOOT, 8 SW, 9 AGND

## LMR50410XDBVR
designator PS?
Power Supply; Manufacturer_Name: Texas Instruments; Manufacturer_Part_Number: LMR50410XDBVR; Datasheet Link: https://www.ti.com/lit/ds/symlink/lmr50410.pdf?ts=1608317161664&ref_url=https%253A%252F%252Fwww.google.com%252F; Height: 1.45mm; Mouser Part Number: 595-LMR50410XDBVR; Mouser Price/Stock: https://www.mouser.co.uk/ProductDetail/Texas-Instruments/LMR50410XDBVR?qs=81r%252BiQLm7BSmpg9WzkckPA%3D%3D; Arrow Part Number: LMR50410XDBVR; Arrow Price/Stock: https://www.arrow.com/en/products/lmr50410xdbvr/texas-instruments?region=nac
footprint SOT95P280X145-6N
pins: 1 CB, 2 GND (power), 3 FB, 4 EN, 5 VIN (power), 6 SW

## LMV358MX_NOPB
designator IC?
Integrated Circuit; Manufacturer_Name: Texas Instruments; Manufacturer_Part_Number: LMV358MX/NOPB; Datasheet Link: http://www.ti.com/lit/gpn/lmv358-n; Height: 1.75mm; Mouser Part Number: 926-LMV358MX/NOPB; Mouser Price/Stock: https://www.mouser.co.uk/ProductDetail/Texas-Instruments/LMV358MX-NOPB?qs=7lkVKPoqpbaZWqXefrgn%2Fg%3D%3D; Arrow Part Number: LMV358MX/NOPB; Arrow Price/Stock: https://www.arrow.com/en/products/lmv358mxnopb/texas-instruments?region=nac
footprint SOIC127P600X175-8N
pins: 1 OUTA, 2 INA-, 3 INA+, 4 V-, 5 INB+, 6 INB-, 7 OUTB, 8 V+

## LMV7239M5X
designator IC?
Integrated Circuit; Manufacturer_Name: Texas Instruments; Manufacturer_Part_Number: LMV7239M5X; Datasheet Link: https://www.ti.com/lit/ds/symlink/lmv7239.pdf?HQS=dis-mous-null-mousermode-dsf-pf-null-wwe&ts=1635839716778&ref_url=https%253A%252F%252Fwww.mouser.in%252F; Height: 1.45mm; Mouser Part Number: 926-LMV7239M5X; Mouser Price/Stock: https://www.mouser.co.uk/ProductDetail/Texas-Instruments/LMV7239M5X?qs=7lkVKPoqpbbyKlw3AVXmDA%3D%3D; Arrow Part Number: LMV7239M5X; Arrow Price/Stock: https://www.arrow.com/en/products/lmv7239m5x/texas-instruments?region=nac
footprint SOT95P280X145-5N
pins: 1 VOUT, 2 V-, 3 IN+, 4 IN-, 5 V+

## LP2985-50DBVR
designator PS?
Power Supply; Manufacturer_Name: Texas Instruments; Manufacturer_Part_Number: LP2985-50DBVR; Datasheet Link: http://www.ti.com/lit/gpn/lp2985; Height: 1.45mm; Mouser Part Number: 595-LP2985-50DBVR; Mouser Price/Stock: https://www.mouser.co.uk/ProductDetail/Texas-Instruments/LP2985-50DBVR?qs=2rshWTB%2FmZw6UIeOIHZ4dA%3D%3D; Arrow Part Number: LP2985-50DBVR; Arrow Price/Stock: https://www.arrow.com/en/products/lp2985-50dbvr/texas-instruments?region=nac
footprint SOT95P280X145-5N
pins: 1 VIN (power), 2 GND (power), 3 ON/~{OFF} (in), 4 BYPASS (in), 5 VOUT (out)

## LP5907MFX-3.3
designator PS?
IC LDO 3.3V; Manufacturer_Name: Texas Instruments; Manufacturer_Part_Number: LP5907MFX-3.3/NOPB; Datasheet Link: http://www.ti.com/lit/gpn/lp5907; Height: 1.45mm
footprint SOT95P280X145-5N
pins: 1 IN (in), 2 GROUND (power), 3 EN, 4 N/C, 5 OUT (out)

## LPJD4012BHNL
designator J?
Connector, RJ-45; Manufacturer_Name: LINK-PP; PN analog 1: Pulse JXD2-9015NL; PN analog 2: Tyco 2301995-3; PN analog 3: Pulse JXD2-0015NL; Datasheet Link: http://www.link-pp.com/?product/201812046463.html; Height: 17.25mm; Manufacturer_Part_Number: LPJD4012BHNL
footprint LPJD4012BHNL
pins: 1 TD+, 2 CT_1, 3 TD-, 4 RD+, 5 CT_2, 6 RD-, 7 NC, 8 CHS_GROUND, 9 K_YELLOW, 10 A_YELLOW, 11 K_GREEN, 12 A_GREEN, MH1, MH2

## LPS22HB
designator IC?
Integrated Circuit, MEMS nano pressure sensor, 260-1260 hPa; Manufacturer_Name: ST; Manufacturer_Part_Number: LPS22HB; Datasheet Link: https://www.st.com/resource/en/datasheet/lps22hb.pdf; Height: 1.01mm
footprint LPS22HBTR
pins: 1 VDDIO, 2 SCL/SPC, 3 RES, 4 SDA/SDI/SDO, 5 SDO/SA0, 6 CS, 7 INT_DRDY, 8 GND_1, 9 GND_2, 10 VDD

## LQG18HN3N3S00
designator L?, comment 3.3nH 1A
FIXED IND 3.3NH 1A 0.12OHM SMD; Manufacturer_Name: Murata Electronics; Manufacturer_Part_Number: LQG18HN3N3S00; Datasheet Link: https://psearch.en.murata.com/inductor/product/LQH43MN150K03%23.html; Height: 1mm; Value: 3.3nH 1A
footprint LQM18PH1R0MFRL
pins: 1, 2

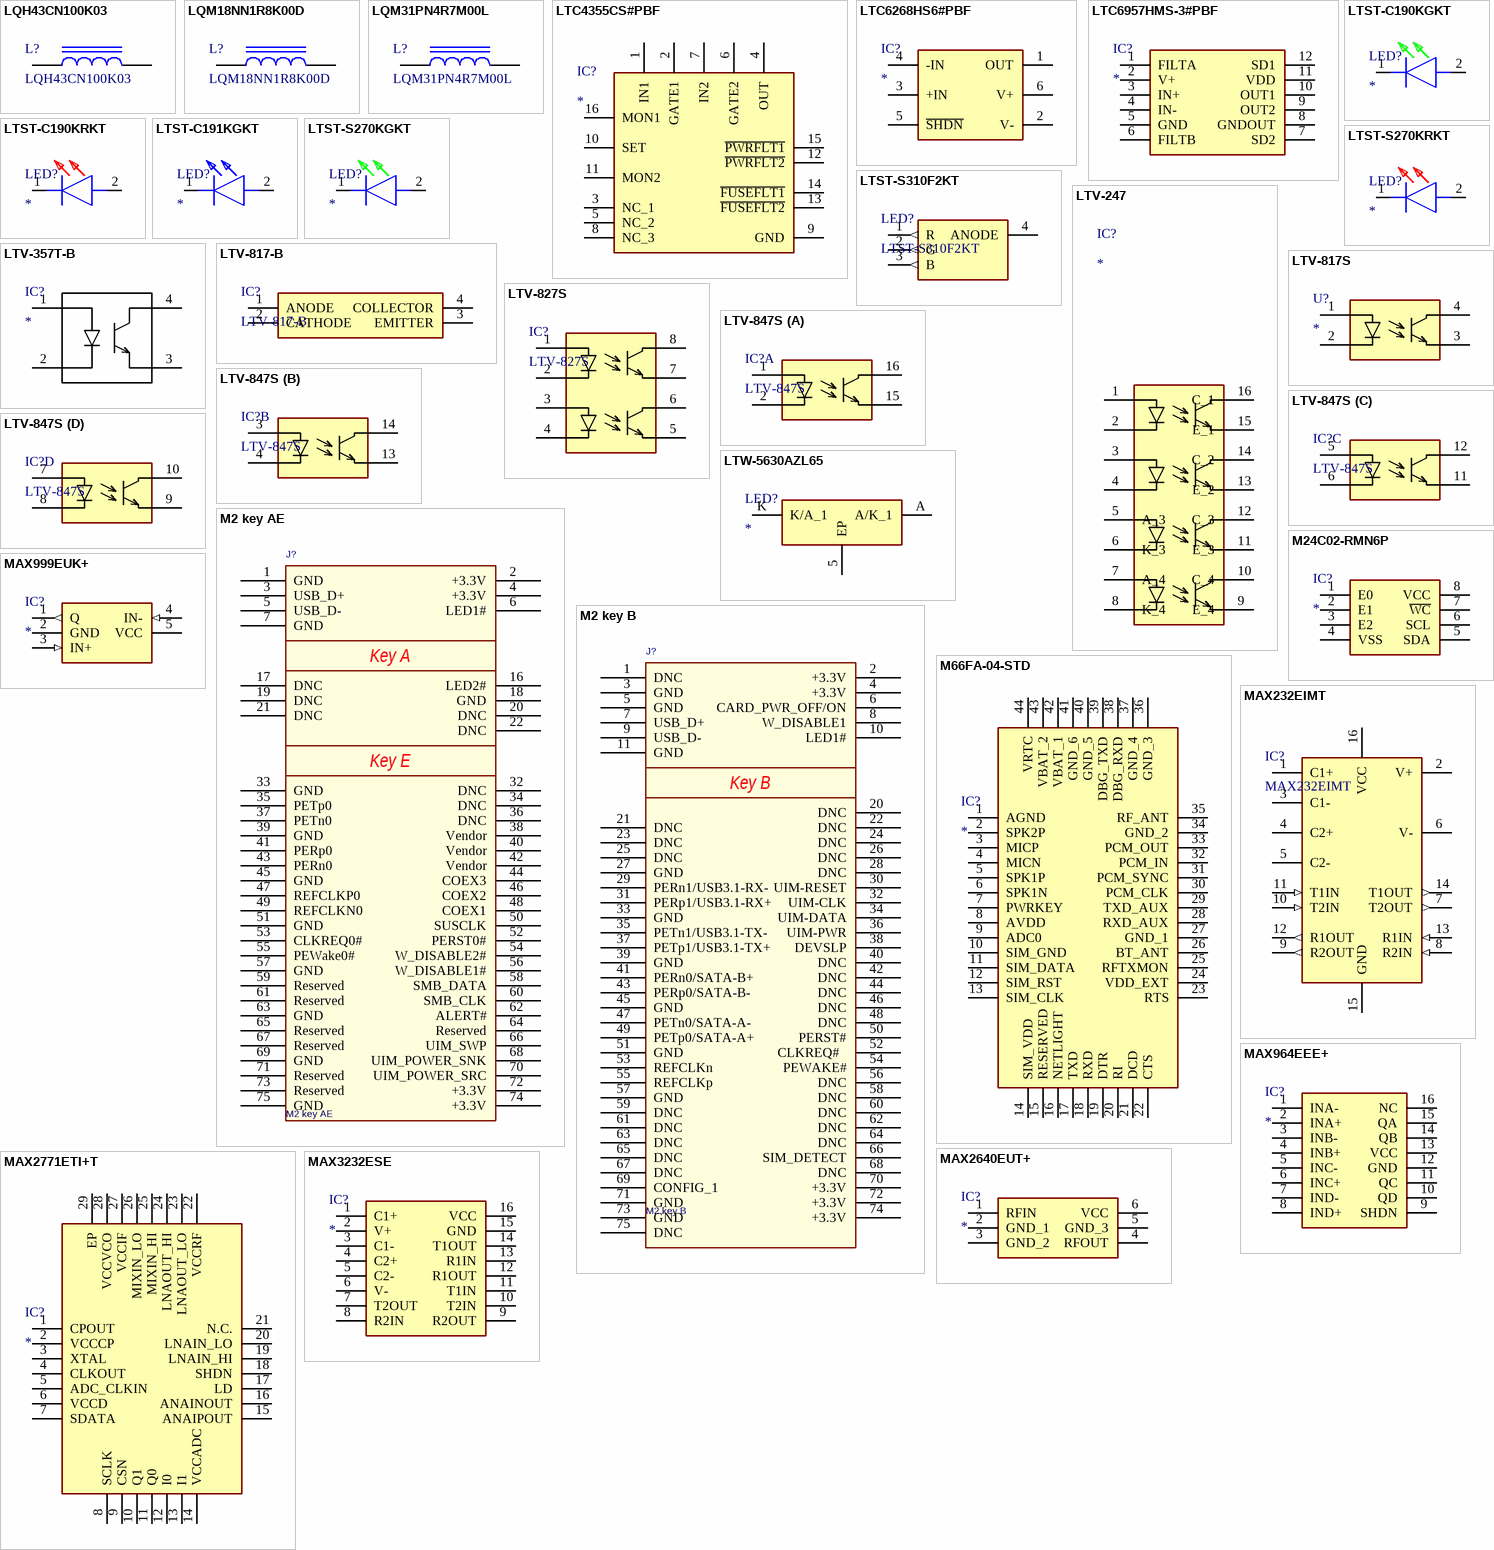
[diagram p28: symbols LQH43CN100K03 to MAX3232ESE]

## LQH43CN100K03
designator L?
Inductor; Manufacturer_Name: Murata Electronics; Manufacturer_Part_Number: LQH43MN150K03L; Datasheet Link: https://psearch.en.murata.com/inductor/product/LQH43MN150K03%23.html; Height: 2.8mm; Mouser Part Number: 81-LQH43MN150K03L; Mouser Price/Stock: https://www.mouser.co.uk/ProductDetail/Murata-Electronics/LQH43MN150K03L?qs=OJhuTyneA2xAz1%2FPbzfTmQ%3D%3D; Arrow Part Number: LQH43MN150K03L; Arrow Price/Stock: https://www.arrow.com/en/products/lqh43mn150k03l/murata-manufacturing
footprint LQH43; pin to pad 1>1+3 2>2+4
pins: 1, 2

## LQM18NN1R8K00D
designator L?
FIXED IND 1.8UH 25MA 950 MOHM; Manufacturer_Name: Murata Electronics; Datasheet Link: https://psearch.en.murata.com/inductor/product/LQH43MN150K03%23.html; Height: 2.8mm; Manufacturer_Part_Number: LQM18NN1R8K00D; Mouser Part Number: LQM18NN1R8K00D; Mouser Price/Stock: https://www.mouser.co.uk/ProductDetail/Murata-Electronics/LQH43MN150K03L?qs=OJhuTyneA2xAz1%2FPbzfTmQ%3D%3D; Arrow Part Number: LQH43MN150K03L; Arrow Price/Stock: https://www.arrow.com/en/products/lqh43mn150k03l/murata-manufacturing
footprint LQM18PH1R0MFRL; pin to pad 1>1+3 2>2+4
pins: 1, 2

## LQM31PN4R7M00L
designator L?
Inductor; Manufacturer_Name: Murata Electronics; Datasheet Link: https://psearch.en.murata.com/inductor/product/LQH43MN150K03%23.html; Height: 2.8mm; Manufacturer_Part_Number: LQM31PN4R7M00L; Mouser Part Number: 81-LQH43MN150K03L; Mouser Price/Stock: https://www.mouser.co.uk/ProductDetail/Murata-Electronics/LQH43MN150K03L?qs=OJhuTyneA2xAz1%2FPbzfTmQ%3D%3D; Arrow Part Number: LQH43MN150K03L; Arrow Price/Stock: https://www.arrow.com/en/products/lqh43mn150k03l/murata-manufacturing
footprint LQM31; pin to pad 1>1+3 2>2+4
pins: 1, 2

## LTC4355CS#PBF
designator IC?
Integrated Circuit; Manufacturer_Name: Analog Devices; Manufacturer_Part_Number: LTC4355CS#PBF; Datasheet Link: http://www.analog.com/media/en/technical-documentation/data-sheets/4355ff.pdf; Height: 1.752mm; Mouser Part Number: 584-LTC4355CS#PBF; Mouser Price/Stock: https://www.mouser.co.uk/ProductDetail/Analog-Devices/LTC4355CSPBF?qs=hVkxg5c3xu8RFGMIBsfs0A%3D%3D; Arrow Part Number: LTC4355CS#PBF; Arrow Price/Stock: http://www.arrow.com/en/products/ltc4355cspbf/linear-technology
footprint SOIC127P600X175-16N
pins: 1 IN1, 2 GATE1, 3 NC_1, 4 OUT, 5 NC_2, 6 GATE2, 7 IN2, 8 NC_3, 9 GND, 10 SET, 11 MON2, 12 ~{PWRFLT2}, 13 ~{FUSEFLT2}, 14 ~{FUSEFLT1}, 15 ~{PWRFLT1}, 16 MON1

## LTC6268HS6#PBF
designator IC?
Integrated Circuit; Manufacturer_Name: Linear Technology; Manufacturer_Part_Number: LTC6268HS6#PBF; Datasheet Link: https://www.google.com/url?sa=t&rct=j&q=&esrc=s&source=web&cd=&cad=rja&uact=8&ved=2ahUKEwiYlKTx08fsAhXFzYUKHV6PDhYQFjACegQIAxAC&url=https%3A%2F%2Fwww.analog.com%2Fmedia%2Fen%2Ftechnical-documentation%2Fdata-sheets%2F62689f.pdf&usg=AOvVaw1aq7GCpqknNCJPeWui; Height: 1mm
footprint SOT95P280X100-6N
pins: 1 OUT, 2 V-, 3 +IN, 4 -IN, 5 ~{SHDN}, 6 V+

## LTC6957HMS-3#PBF
designator IC?
Integrated Circuit; Manufacturer_Name: Analog Devices; Manufacturer_Part_Number: LTC6957HMS-3#PBF; Datasheet Link: http://cds.linear.com/docs/jp/datasheet/j6957f.pdf; Height: 1.1mm; Mouser Part Number: 584-LTC6957HMS-3#PBF; Mouser Price/Stock: https://www.mouser.co.uk/ProductDetail/Analog-Devices/LTC6957HMS-3PBF?qs=hVkxg5c3xu%252BueaB9qRVCXQ%3D%3D; Arrow Part Number: LTC6957HMS-3#PBF; Arrow Price/Stock: https://www.arrow.com/en/products/ltc6957hms-3pbf/analog-devices?utm_currency=USD&region=nac
footprint SOP65P490X110-12N
pins: 1 FILTA, 2 V+, 3 IN+, 4 IN-, 5 GND, 6 FILTB, 7 SD2, 8 GNDOUT, 9 OUT2, 10 OUT1, 11 VDD, 12 SD1

## LTST-C190KGKT
designator LED?
LED, 0603, GREEN; Manufacturer_Name: Lite-On; Manufacturer_Part_Number: LTST-C190KGKT; Datasheet Link: http://uk.rs-online.com/web/p/visible-leds/6920988/; Height: 0.8mm; Mouser Part Number: 859-LTST-C190KGKT; Mouser Price/Stock: https://www.mouser.co.uk/ProductDetail/Lite-On/LTST-C190KGKT?qs=205qCy6M2Q%252BAdcgwUZktqw%3D%3D; Arrow Part Number: LTST-C190KGKT; Arrow Price/Stock: https://www.arrow.com/en/products/ltst-c190kgkt/lite-on-technology?region=europe
footprint LEDC1608X80N
pins: 1 K, 2 A

## LTST-C190KRKT
designator LED?
LED, 0603, RED; Manufacturer_Name: Lite-On; Manufacturer_Part_Number: LTST-C190KRKT; Datasheet Link: https://componentsearchengine.com/Datasheets/1/LTST-C190KRKT.pdf; Height: 0.8mm; Mouser Part Number: 859-LTST-C190KRKT; Mouser Price/Stock: https://www.mouser.co.uk/ProductDetail/Lite-On/LTST-C190KRKT?qs=kAD5fFa1n5VY3YYNWPC1Fg%3D%3D; Arrow Part Number: LTST-C190KRKT; Arrow Price/Stock: https://www.arrow.com/en/products/ltst-c190krkt/lite-on-technology?region=europe
footprint LEDC1608X80N
pins: 1 K, 2 A

## LTST-C191KGKT
designator LED?
LED; Manufacturer_Name: Lite-On; Manufacturer_Part_Number: LTST-C191KGKT; Datasheet Link: http://www.mouser.com/ds/2/239/S_110_LTST-C191KGKT-369560.pdf; Height: 0.55mm; Mouser Part Number: 859-LTST-C191KGKT; Mouser Price/Stock: https://www.mouser.co.uk/ProductDetail/Lite-On/LTST-C191KGKT?qs=xSPZu9B1aMCRQ5ACasEYAg%3D%3D; Arrow Part Number: LTST-C191KGKT; Arrow Price/Stock: https://www.arrow.com/en/products/ltst-c191kgkt/lite-on-technology?region=nac
footprint LEDC1608X55N
pins: 1 K, 2 A

## LTST-S270KGKT
designator LED?
LED, 0603 SIDE, GREEN; Manufacturer_Name: Lite-On; Manufacturer_Part_Number: LTST-S270KGKT; Datasheet Link: https://optoelectronics.liteon.com/upload/download/DS22-2000-226/LTST-S270KGKT.pdf; Height: 0.7mm; Mouser Part Number: 859-LTST-S270KGKT; Mouser Price/Stock: https://www.mouser.co.uk/ProductDetail/Lite-On/LTST-S270KGKT?qs=oL5uk4n%2FG821%2FMiCU6RADg%3D%3D; Arrow Part Number: LTST-S270KGKT; Arrow Price/Stock: https://www.arrow.com/en/products/ltst-s270kgkt/lite-on-technology?region=nac
footprint LTSTS270KGKT
pins: 1 K, 2 A

## LTST-S270KRKT
designator LED?
LED, 0603 SIDE, RED; Manufacturer_Name: Lite-On; Manufacturer_Part_Number: LTST-S270KRKT; Datasheet Link: https://optoelectronics.liteon.com/upload/download/DS22-2000-210/LTST-S270KRKT.pdf; Height: 1mm; Mouser Part Number: 859-LTST-S270KRKT; Mouser Price/Stock: https://www.mouser.co.uk/ProductDetail/Lite-On/LTST-S270KRKT?qs=NUb82WqeCyrkrhATBGeB1A%3D%3D; Arrow Part Number: LTST-S270KRKT; Arrow Price/Stock: https://www.arrow.com/en/products/ltst-s270krkt/lite-on-technology?region=nac
footprint LTSTS270KRKT
pins: 1 K, 2 A

## LTST-S310F2KT
designator LED?
LED (Multiple), RGB; Manufacturer_Name: Lite-On; Datasheet Link: https://www.lcsc.com/datasheet/lcsc_datasheet_2410121713_Lite-On-LTST-S310F2KT_C284950.pdf; Manufacturer_Part_Number: LTST-S310F2KT
footprint LTST-310F2KT
pins: 1 R (out), 2 G (out), 3 B (out), 4 ANODE (power)

## LTV-247
designator IC?
Integrated Circuit; Manufacturer_Name: Lite-On; Manufacturer_Part_Number: LTV-247; Datasheet Link: http://optoelectronics.liteon.com/upload/download/DS70-2009-0014/LTV-2X7%20sereis%20Mar17.PDF; Mouser Part Number: 859-LTV-247; Mouser Price/Stock: https://www.mouser.co.uk/ProductDetail/Lite-On/LTV-247?qs=9ayhpukWNmvWpoxQBzWkFA%3D%3D; Arrow Part Number: LTV-247; Arrow Price/Stock: https://www.arrow.com/en/products/ltv-247/lite-on-technology?region=europe
footprint LTV247
pins: 1 A_1, 2 K_1, 3 A_2, 4 K_2, 5 A_3, 6 K_3, 7 A_4, 8 K_4, 9 E_4, 10 C_4, 11 E_3, 12 C_3, 13 E_2, 14 C_2, 15 E_1, 16 C_1

## LTV-357T-B
designator IC?
Optoisolator; Manufacturer_Name: Lite-On; Manufacturer_Part_Number: LTV-357T-B; Datasheet Link: https://media.digikey.com/pdf/Data%20Sheets/Lite-On%20PDFs/LTV-357T_8-5-13.pdf; Height: 2.4mm; Mouser Part Number: 859-LTV-357T-B; Mouser Price/Stock: https://www.mouser.co.uk/ProductDetail/Lite-On/LTV-357T-B?qs=5Clb0NIqk7EQ3dlDnldn0w%3D%3D; Arrow Part Number: LTV-357T-B; Arrow Price/Stock: https://www.arrow.com/en/products/ltv-357t-b/lite-on-technology?region=nac
footprint SOP254P675X240-4N
pins: 1 ANODE, 2 CATHODE, 3 EMITTER, 4 COLLECTOR

## LTV-817-B
designator IC?
Optoisolator; Manufacturer_Name: Lite-On; Datasheet Link: https://www.mouser.mx/datasheet/2/239/LTV-8X7_series_201610_-1544776.pdf; Height: 4.6mm; Manufacturer_Part_Number: LTV-817-B
footprint DIP762W60P254L458H400Q4N
pins: 1 ANODE, 2 CATHODE, 3 EMITTER, 4 COLLECTOR

## LTV-817S
designator U?
Undefined or Miscellaneous; Manufacturer_Name: Lite-On; Manufacturer_Part_Number: LTV-817S; Datasheet Link: http://optoelectronics.liteon.com/upload/download/DS-70-96-0016/LTV-8X7%20series%20201610%20.pdf; Height: 4.6mm; Mouser Part Number: 859-LTV-817S; Mouser Price/Stock: https://www.mouser.co.uk/ProductDetail/Lite-On/LTV-817S?qs=XpF7qU%252BvLkWYeWEC0OckNQ%3D%3D; Arrow Part Number: LTV-817S; Arrow Price/Stock: https://www.arrow.com/en/products/ltv-817s/lite-on-technology?utm_currency=USD&region=nac
footprint SOP254P1016X460-4N (Footprint not found)
pins: 1 A, 2 K, 3 E, 4 C

## LTV-827S
designator IC?
Optoisolator; Manufacturer_Name: Lite-On; Datasheet Link: https://www.mouser.mx/datasheet/2/239/LTV-8X7_series_201610_-1544776.pdf; Height: 4.6mm; Manufacturer_Part_Number: LTV-827S; Mouser Part Number: 859-LTV-827S; Mouser Price/Stock: https://www.mouser.co.uk/ProductDetail/Lite-On/LTV-827S?qs=5m%252ByTwlvhMUJgq90MY9meQ%3D%3D; Arrow Part Number: LTV-827S; Arrow Price/Stock: https://www.arrow.com/en/products/ltv-827s/lite-on-technology?region=nac
footprint SOP254P1016X460-8N
pins: 1 A_1, 2 K_1, 3 A_2, 4 K_2, 5 E_1, 6 C_1, 7 E_2, 8 C_2

## LTV-847S
designator IC?
Optoisolator; Manufacturer_Name: Lite-On; Manufacturer_Part_Number: LTV847S; Datasheet Link: https://www.mouser.pe/datasheet/2/239/LTV-8X7_series_201610_-1544776.pdf; Height: 4.6mm
footprint LTV846S
part A pins: 1 A_1, 2 K_1, 15 E_4, 16 C_4
part B pins: 3 A_2, 4 K_2, 13 E_3, 14 C_3
part C pins: 5 A_3, 6 K_3, 11 E_2, 12 C_2
part D pins: 7 A_4, 8 K_4, 9 E_1, 10 C_1

## LTW-5630AZL65
designator LED?
LED; Manufacturer_Name: Lite-On; Manufacturer_Part_Number: LTW-5630AZL65; Datasheet Link: https://www.mouser.de/datasheet/2/239/LTW_5630AZL_Series_Data_Sheet_20140606-555562.pdf; Height: 1.1mm; Mouser Part Number: 859-LTW5630AZL65; Mouser Price/Stock: https://www.mouser.co.uk/ProductDetail/Lite-On/LTW-5630AZL65?qs=U5SWHfT1b2m8jPp1rie%2FqA%3D%3D; Arrow Part Number: LTW-5630AZL65; Arrow Price/Stock: https://www.arrow.com/en/products/ltw-5630azl65/lite-on-technology
footprint LTW5630AZL65; pin to pad A>2+A2 K>1+A1
pins: 5 EP, A A/K_1, K K/A_1

## M2 key AE
designator J?  (no BOM)
Edge Connector; Published: 08-Feb-2008; MountType: SMT
footprint M2-2230-AE (UNTESTED m.2 2230 type E)
pins: 1 GND, 2 +3.3V, 3 USB_D+  , 4 +3.3V, 5 USB_D-, 6 LED1#, 7 GND, 16 LED2#, 17 DNC, 18 GND, 19 DNC, 20 DNC, 21 DNC, 22 DNC, 32 DNC, 33 GND, 34 DNC, 35 PETp0, 36 DNC, 37 PETn0, 38 Vendor, 39 GND, 40 Vendor, 41 PERp0, 42 Vendor, 43 PERn0, 44 COEX3, 45 GND, 46 COEX2, 47 REFCLKP0, 48 COEX1, 49 REFCLKN0, 50 SUSCLK, 51 GND, 52 PERST0#, 53 CLKREQ0#  , 54 W_DISABLE2#, 55 PEWake0#, 56 W_DISABLE1#, 57 GND, 58 SMB_DATA, 59 Reserved, 60 SMB_CLK, 61 Reserved, 62 ALERT#, 63 GND, 64 Reserved, 65 Reserved, 66 UIM_SWP, 67 Reserved, 68 UIM_POWER_SNK, 69 GND, 70 UIM_POWER_SRC, 71 Reserved, 72 +3.3V, 73 Reserved, 74 +3.3V, 75 GND
text: Key A; Key E

## M2 key B
designator J?  (no BOM)
Edge Connector, note full m2 pinout; Published: 08-Feb-2008; MountType: SMT
footprint M2-2280-B (m.2 2280 type B)
pins: 1 DNC, 2 +3.3V, 3 GND, 4 +3.3V, 5 GND, 6 CARD_PWR_OFF/ON, 7 USB_D+  , 8 W_DISABLE1, 9 USB_D-, 10 LED1#, 11 GND, 20 DNC, 21 DNC, 22 DNC, 23 DNC, 24 DNC, 25 DNC, 26 DNC, 27 GND, 28 DNC, 29 PERn1/USB3.1-RX-, 30 UIM-RESET, 31 PERp1/USB3.1-RX+, 32 UIM-CLK, 33 GND, 34 UIM-DATA, 35 PETn1/USB3.1-TX-, 36 UIM-PWR, 37 PETp1/USB3.1-TX+, 38 DEVSLP, 39 GND, 40 DNC, 41 PERn0/SATA-B+, 42 DNC, 43 PERp0/SATA-B-, 44 DNC, 45 GND, 46 DNC, 47 PETn0/SATA-A-, 48 DNC, 49 PETp0/SATA-A+, 50 PERST#, 51 GND, 52 CLKREQ#  , 53 REFCLKn, 54 PEWAKE#, 55 REFCLKp, 56 DNC, 57 GND, 58 DNC, 59 DNC, 60 DNC, 61 DNC, 62 DNC, 63 DNC, 64 DNC, 65 DNC, 66 SIM_DETECT, 67 DNC, 68 DNC, 69 CONFIG_1, 70 +3.3V, 71 GND, 72 +3.3V, 73 GND, 74 +3.3V, 75 DNC
text: Key B

## M24C02-RMN6P
designator IC?
Integrated Circuit; Manufacturer_Name: STMicroelectronics; Manufacturer_Part_Number: M24C02-RMN6P; Datasheet Link: http://www.st.com/st-web-ui/static/active/en/resource/technical/document/datasheet/DM00071904.pdf; Height: 1.75mm; Mouser Part Number: 511-M24C02-RMN6P; Mouser Price/Stock: https://www.mouser.co.uk/ProductDetail/STMicroelectronics/M24C02-RMN6P?qs=Au9%252BK7QVGzXd5M2vTlbyeA%3D%3D; Arrow Part Number: M24C02-RMN6P; Arrow Price/Stock: https://www.arrow.com/en/products/m24c02-rmn6p/stmicroelectronics
footprint SOIC127P600X175-8N
pins: 1 E0, 2 E1, 3 E2, 4 VSS, 5 SDA, 6 SCL, 7 ~{WC}, 8 VCC

## M66FA-04-STD
designator IC?
Integrated Circuit; Manufacturer_Name: Quectel; Manufacturer_Part_Number: M66FA-04-STD; Height: 2mm; Mouser Part Number: 277-M66FA-04-STD; Mouser Price/Stock: https://www.mouser.co.uk/ProductDetail/Quectel/M66FA-04-STD?qs=GedFDFLaBXFZPRb0XSkrFQ%3D%3D
footprint M66FA04STD
pins: 1 AGND, 2 SPK2P, 3 MICP, 4 MICN, 5 SPK1P, 6 SPK1N, 7 PWRKEY, 8 AVDD, 9 ADC0, 10 SIM_GND, 11 SIM_DATA, 12 SIM_RST, 13 SIM_CLK, 14 SIM_VDD, 15 RESERVED, 16 NETLIGHT, 17 TXD, 18 RXD, 19 DTR, 20 RI, 21 DCD, 22 CTS, 23 RTS, 24 VDD_EXT, 25 RFTXMON, 26 BT_ANT, 27 GND_1, 28 RXD_AUX, 29 TXD_AUX, 30 PCM_CLK, 31 PCM_SYNC, 32 PCM_IN, 33 PCM_OUT, 34 GND_2, 35 RF_ANT, 36 GND_3, 37 GND_4, 38 DBG_RXD, 39 DBG_TXD, 40 GND_5, 41 GND_6, 42 VBAT_1, 43 VBAT_2, 44 VRTC

## MAX232EIMT
designator IC?
Integrated Circuit, RS-232; Manufacturer_Name: HGSEMI; Manufacturer_Part_Number: MAX232EIMT/TR; Datasheet Link: https://www.lcsc.com/datasheet/lcsc_datasheet_2406061555_HGSEMI-MAX232EIMT-TR_C5310855.pdf; Height: 0.95; LCSC #: C5310855
footprint SOIC127P1032X265-16N
pins: 1 C1+, 2 V+, 3 C1-, 4 C2+, 5 C2-, 6 V-, 7 T2OUT (out), 8 R2IN (in), 9 R2OUT (out), 10 T2IN (in), 11 T1IN (in), 12 R1OUT (out), 13 R1IN (in), 14 T1OUT (out), 15 GND, 16 VCC

## MAX964EEE+
designator IC?
Integrated Circuit; Manufacturer_Name: Analog Devices; Manufacturer_Part_Number: MAX964EEE+; Datasheet Link: https://componentsearchengine.com/Datasheets/1/MAX964EEE+.pdf; Height: 1.75mm; Mouser Part Number: 700-MAX964EEE; Mouser Price/Stock: https://www.mouser.co.uk/ProductDetail/Maxim-Integrated/MAX964EEE%2b?qs=1THa7WoU59FmiHSQ7CaYFQ%3D%3D; Arrow Part Number: MAX964EEE+; Arrow Price/Stock: https://www.arrow.com/en/products/max964eee/maxim-integrated?region=nac
footprint SOP64P602X175-16N
pins: 1 INA-, 2 INA+, 3 INB-, 4 INB+, 5 INC-, 6 INC+, 7 IND-, 8 IND+, 9 SHDN, 10 QD, 11 QC, 12 GND, 13 VCC, 14 QB, 15 QA, 16 NC

## MAX999EUK+
designator IC?
Integrated Circuit; Manufacturer_Name: Analog Devices; Manufacturer_Part_Number: MAX999EUK+; Datasheet Link: http://datasheets.maximintegrated.com/en/ds/MAX961-MAX999.pdf; Height: 1.45mm
footprint SOT95P280X145-5N
pins: 1 Q (out), 2 GND (power), 3 IN+ (in), 4 IN- (in), 5 VCC (power)

## MAX2640EUT+
designator IC?
Integrated Circuit; Manufacturer_Name: Maxim Integrated; Manufacturer_Part_Number: MAX2640EUT+; Datasheet Link: http://datasheets.maximintegrated.com/en/ds/MAX2640-MAX2641.pdf; Height: 1.45mm; Mouser Part Number: 700-MAX2640EUT+; Mouser Price/Stock: https://www.mouser.co.uk/ProductDetail/Maxim-Integrated/MAX2640EUT%2b?qs=hoqcozD0wPTIrSZwzw63%252Bg%3D%3D
footprint SOT95P280X145-6N
pins: 1 RFIN, 2 GND_1, 3 GND_2, 4 RFOUT, 5 GND_3, 6 VCC

## MAX2771ETI+T
designator IC?
Integrated Circuit; Manufacturer_Name: Analog Devices; Manufacturer_Part_Number: MAX2771ETI+T; Datasheet Link: https://datasheets.maximintegrated.com/en/ds/MAX2771.pdf; Height: 0.8mm; Mouser Part Number: 700-MAX2771ETI+T; Mouser Price/Stock: https://www.mouser.co.uk/ProductDetail/Maxim-Integrated/MAX2771ETI%2bT?qs=byeeYqUIh0PS0WKqwMEIXA%3D%3D
footprint QFN50P500X500X80-29N
pins: 1 CPOUT, 2 VCCCP, 3 XTAL, 4 CLKOUT, 5 ADC_CLKIN, 6 VCCD, 7 SDATA, 8 SCLK, 9 CSN, 10 Q1, 11 Q0, 12 I0, 13 I1, 14 VCCADC, 15 ANAIPOUT, 16 ANAINOUT, 17 LD, 18 SHDN, 19 LNAIN_HI, 20 LNAIN_LO, 21 N.C., 22 VCCRF, 23 LNAOUT_LO, 24 LNAOUT_HI, 25 MIXIN_HI, 26 MIXIN_LO, 27 VCCIF, 28 VCCVCO, 29 EP

## MAX3232ESE
designator IC?
Integrated Circuit; Manufacturer_Name: Analog Devices; Manufacturer_Part_Number: MAX3232ESE; Datasheet Link: https://datasheets.maximintegrated.com/en/ds/MAX3222-MAX3241.pdf; Height: 1.75mm; Mouser Part Number: N/A; Mouser Price/Stock: https://www.mouser.co.uk/ProductDetail/Maxim-Integrated/MAX3232ESE?qs=ZENAYvsrzLoznpazQOaG5Q%3D%3D
footprint SOIC127P600X175-16N (Footprint not found)
pins: 1 C1+, 2 V+, 3 C1-, 4 C2+, 5 C2-, 6 V-, 7 T2OUT, 8 R2IN, 9 R2OUT, 10 T2IN, 11 T1IN, 12 R1OUT, 13 R1IN, 14 T1OUT, 15 GND, 16 VCC

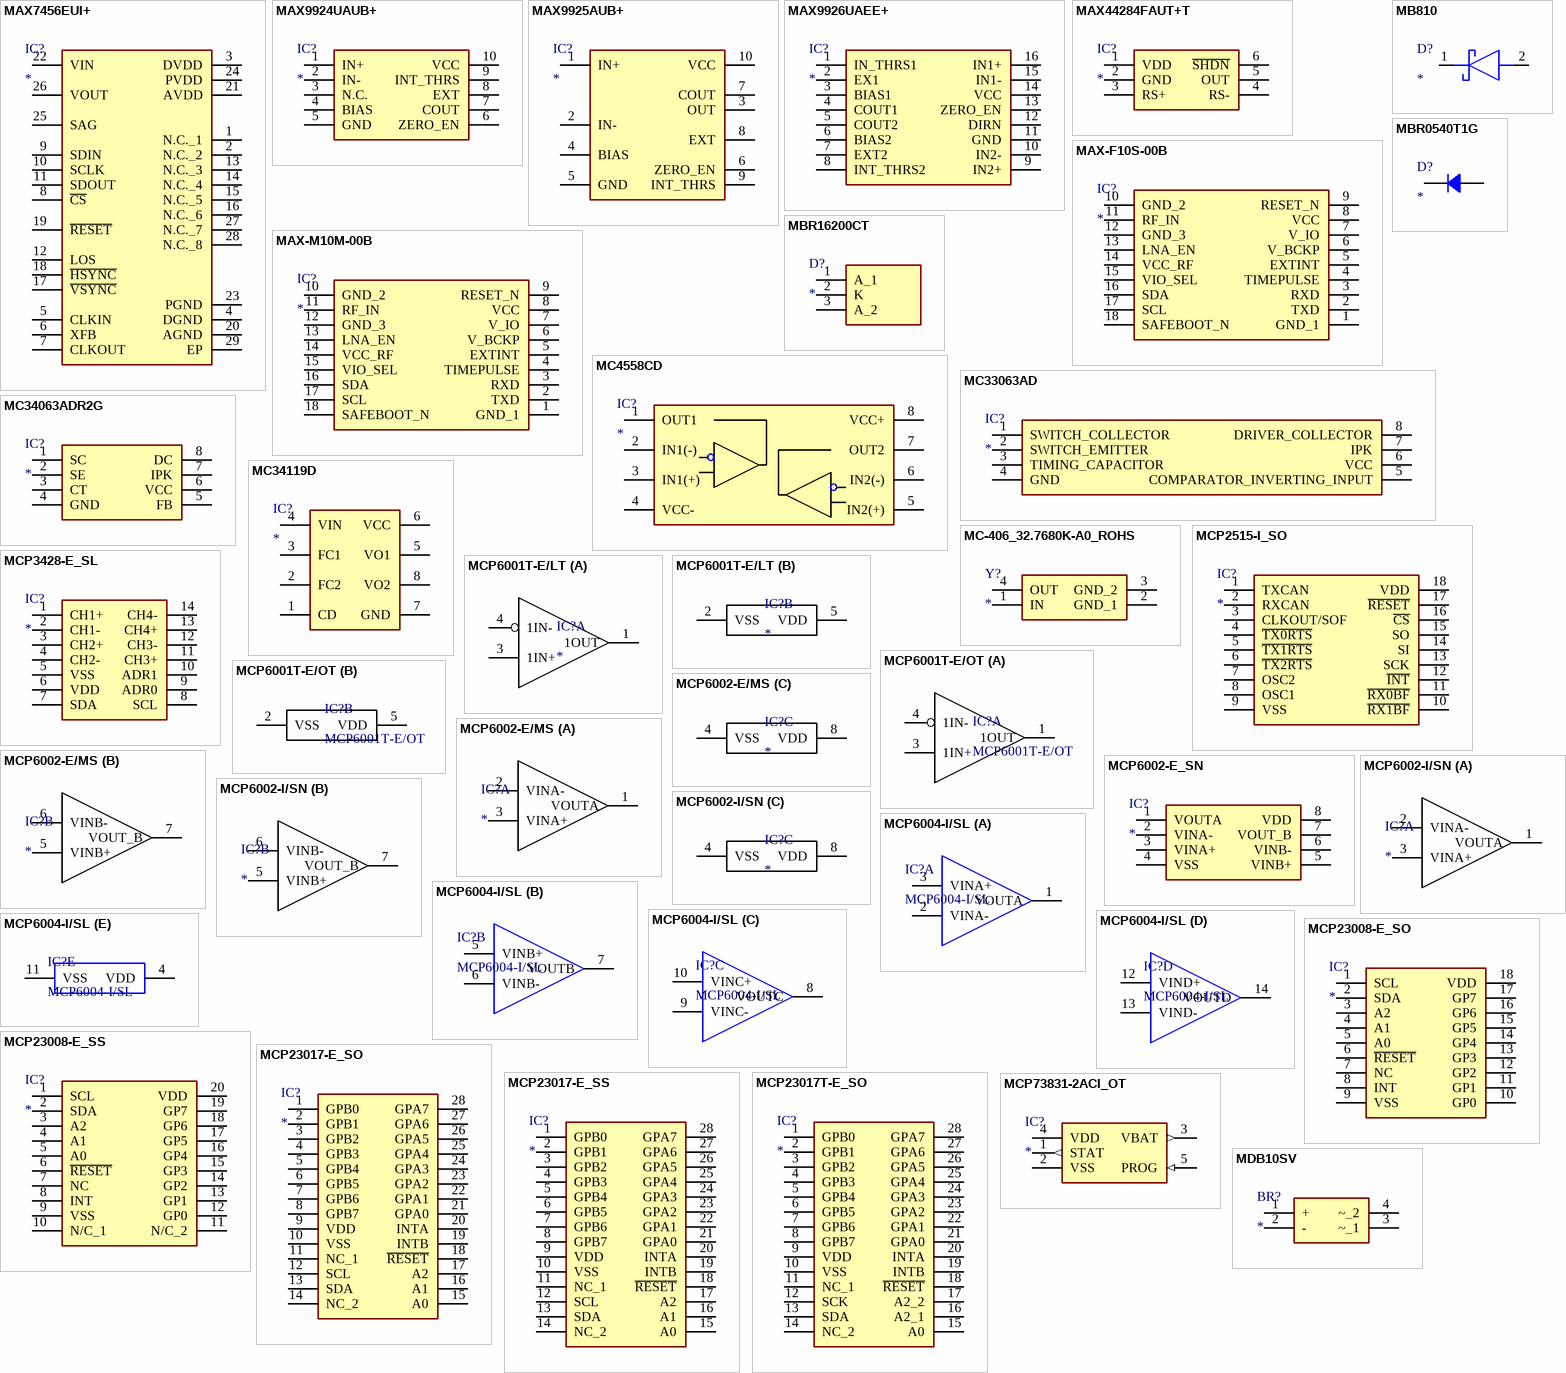
[diagram p29: symbols MAX7456EUI+ to MDB10SV]

## MAX7456EUI+
designator IC?
Integrated Circuit; Manufacturer_Name: Analog Devices; Manufacturer_Part_Number: MAX7456EUI+; Datasheet Link: http://uk.rs-online.com/web/p/products/7326970; Height: 1.1mm; Mouser Part Number: 700-MAX7456EUI; Mouser Price/Stock: https://www.mouser.co.uk/ProductDetail/Analog-Devices-Maxim-Integrated/MAX7456EUI%2b?qs=1THa7WoU59EGj4X9409NRQ%3D%3D
footprint SOP65P638X110-29N
pins: 1 N.C._1, 2 N.C._2, 3 DVDD, 4 DGND, 5 CLKIN, 6 XFB, 7 CLKOUT, 8 ~{CS}, 9 SDIN, 10 SCLK, 11 SDOUT, 12 LOS, 13 N.C._3, 14 N.C._4, 15 N.C._5, 16 N.C._6, 17 ~{VSYNC}, 18 ~{HSYNC}, 19 ~{RESET}, 20 AGND, 21 AVDD, 22 VIN, 23 PGND, 24 PVDD, 25 SAG, 26 VOUT, 27 N.C._7, 28 N.C._8, 29 EP

## MAX9924UAUB+
designator IC?
Integrated Circuit; Manufacturer_Name: Analog Devices; Manufacturer_Part_Number: MAX9924UAUB+; Datasheet Link: https://datasheets.maximintegrated.com/en/ds/MAX9924-MAX9927.pdf; Height: 1.1mm; Mouser Part Number: 700-MAX9924UAUB; Mouser Price/Stock: https://www.mouser.co.uk/ProductDetail/Analog-Devices-Maxim-Integrated/MAX9924UAUB%2b?qs=CDqwynd4ZNp%2Fw00%252BzYUiZw%3D%3D; Arrow Part Number: MAX9924UAUB+; Arrow Price/Stock: https://www.arrow.com/en/products/max9924uaub/maxim-integrated?region=nac
footprint SOP50P490X110-10N
pins: 1 IN+, 2 IN-, 3 N.C., 4 BIAS, 5 GND, 6 ZERO_EN, 7 COUT, 8 EXT, 9 INT_THRS, 10 VCC

## MAX9925AUB+
designator IC?
Integrated Circuit; Manufacturer_Name: Analog Devices; Manufacturer_Part_Number: MAX9925AUB+; Datasheet Link: https://datasheets.maximintegrated.com/en/ds/MAX9924-MAX9927.pdf; Height: 1.1mm; Mouser Part Number: 700-MAX9925AUB; Mouser Price/Stock: https://www.mouser.co.uk/ProductDetail/Analog-Devices-Maxim-Integrated/MAX9925AUB%2b?qs=CDqwynd4ZNqndgGFvdbpcg%3D%3D
footprint SOP50P490X110-10N
pins: 1 IN+, 2 IN-, 3 OUT, 4 BIAS, 5 GND, 6 ZERO_EN, 7 COUT, 8 EXT, 9 INT_THRS, 10 VCC